# Altium footprint library Sykam-Mech1.PcbLib: 15 footprints (part 2 of 4)
Each footprint in its own frame and in the unit in brackets; x right, y up, seen from the top. Pads: shape width x height; smd on the part's side, far side on the other; paste and mask are expansions set on the pad; w line width, h text height; cw(c..) or ccw(c..) is an arc to the next point about the centre after c.
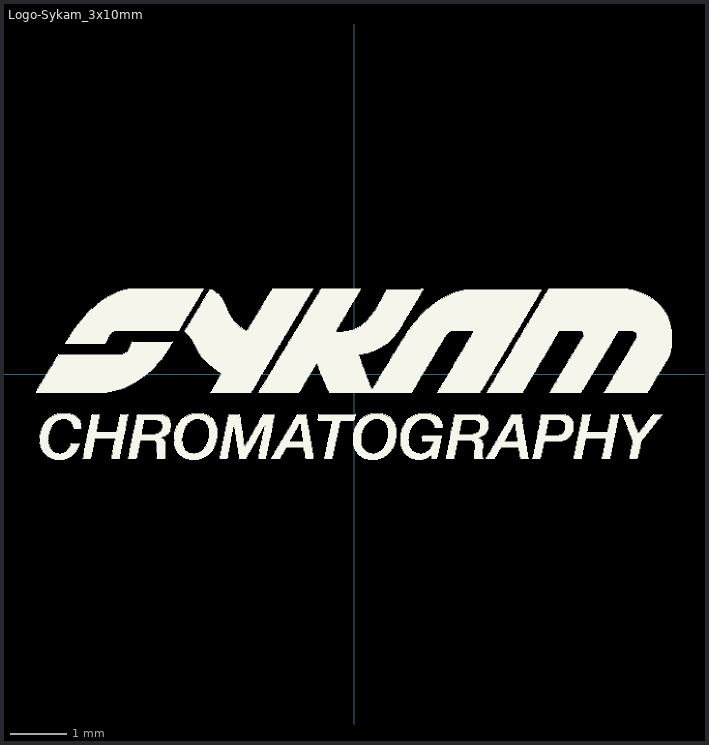
[diagram p1: the footprint, top view; thin cyan lines are the x and y axes]

## Logo-Sykam_3x10mm [mil] "Logo Sykam GmbH in Overlay"
pads (3956):
  round 0.67 on Top Overlay: 1(-220.98,-12.78) 1(-220.98,-12.11) 1(-220.3,-11.44) 1(-220.3,-10.76) 1(-219.63,-10.09) 1(-218.96,-9.42) 1(-218.96,-8.74) 1(-218.29,-48.43) 1(-218.29,-47.76) 1(-218.29,-47.09) 1(-218.29,-46.41) 1(-218.29,-45.74) 1(-218.29,-45.07) 1(-218.29,-44.4) 1(-218.29,-43.72) 1(-218.29,-43.05) 1(-218.29,-42.38) 1(-218.29,-8.07) 1(-218.29,-7.4) 1(-217.61,-51.12) 1(-217.61,-50.45) 1(-217.61,-49.78) 1(-217.61,-49.11) 1(-217.61,-41.71) 1(-217.61,-41.03) 1(-217.61,-40.36) 1(-217.61,-39.69) 1(-217.61,-6.73) 1(-216.94,-52.47) 1(-216.94,-51.8) 1(-216.94,-39.02) 1(-216.94,-38.34) 1(-216.94,-37.67) 1(-216.94,-6.05) 1(-216.94,-5.38) 1(-216.27,-53.81) 1(-216.27,-53.14) 1(-216.27,-37) 1(-216.27,-36.32) 1(-216.27,-35.65) 1(-216.27,-4.71) 1(-216.27,-4.04) 1(-215.59,-54.49) 1(-215.59,-34.98) 1(-215.59,-3.36) 1(-214.92,-55.16) 1(-214.92,-34.31) 1(-214.92,-33.63) 1(-214.92,-2.69) 1(-214.92,-2.02) 1(-214.25,-55.83) 1(-214.25,-32.96) 1(-214.25,-1.35) 1(-214.25,-0.67) 1(-213.58,-56.51) 1(-213.58,-32.29) 1(-213.58,0) 1(-212.9,-57.18) 1(-212.9,-48.43) 1(-212.9,-47.76) 1(-212.9,-47.09) 1(-212.9,-46.41) 1(-212.9,-45.74) 1(-212.9,-45.07) 1(-212.9,-44.4) 1(-212.9,-43.72) 1(-212.9,-43.05) 1(-212.9,-42.38) 1(-212.9,-31.62) 1(-212.9,0.67) 1(-212.9,1.35) 1(-212.23,-50.45) 1(-212.23,-49.78) 1(-212.23,-49.11) 1(-212.23,-41.71) 1(-212.23,-41.03) 1(-212.23,-40.36) 1(-212.23,-39.69) 1(-212.23,-30.94) 1(-212.23,2.02) 1(-212.23,2.69) 1(-211.56,-57.85) 1(-211.56,-51.8) 1(-211.56,-51.12) 1(-211.56,-39.02) 1(-211.56,-38.34) 1(-211.56,-30.27) 1(-211.56,3.36) 1(-210.89,-52.47) 1(-210.89,-37.67) 1(-210.89,-37) 1(-210.89,4.04) 1(-210.89,4.71) 1(-210.21,-58.52) 1(-210.21,-53.14) 1(-210.21,-36.32) 1(-210.21,-35.65) 1(-210.21,-29.6) 1(-210.21,5.38) 1(-209.54,-53.81) 1(-209.54,-34.98) 1(-209.54,-28.93) 1(-209.54,6.05) 1(-209.54,6.73) 1(-208.87,-34.31) 1(-208.87,7.4) 1(-208.87,8.07) 1(-208.2,-59.2) 1(-208.2,-54.49) 1(-208.2,-33.63) 1(-208.2,-28.25) 1(-208.2,8.74) 1(-207.52,-32.96) 1(-207.52,9.42) 1(-207.52,10.09) 1(-206.85,10.76) 1(-206.85,11.44) 1(-206.18,-32.29) 1(-206.18,-27.58) 1(-206.18,12.11) 1(-205.5,-55.16) 1(-205.5,12.78) 1(-205.5,13.45) 1(-204.16,-31.62) 1(-203.49,-55.16) 1(-201.47,-59.2) 1(-201.47,-54.49) 1(-200.8,21.53) 1(-200.12,-53.81) 1(-200.12,22.2) 1(-200.12,22.87) 1(-199.45,-58.52) 1(-199.45,-53.14) 1(-199.45,-31.62) 1(-199.45,23.54) 1(-198.78,-52.47) 1(-198.78,24.22) 1(-198.78,24.89) 1(-198.1,-57.85) 1(-198.1,-51.8) 1(-198.1,-32.29) 1(-198.1,25.56) 1(-197.43,-51.12) 1(-197.43,-50.45) 1(-197.43,-27.58) 1(-197.43,26.23) 1(-197.43,26.91) 1(-196.76,-57.18) 1(-196.76,-49.78) 1(-196.76,-49.11) 1(-196.76,-48.43) 1(-196.76,-32.96) 1(-196.76,27.58) 1(-196.09,-56.51) 1(-196.09,-34.31) 1(-196.09,-33.63) 1(-196.09,28.25) 1(-196.09,28.93) 1(-195.41,-55.83) 1(-195.41,-36.32) 1(-195.41,-35.65) 1(-195.41,-34.98) 1(-195.41,-28.25) 1(-195.41,29.6) 1(-194.74,-55.16) 1(-194.74,-37.67) 1(-194.74,-37) 1(-194.74,30.27) 1(-194.74,30.94) 1(-194.07,-54.49) 1(-194.07,-28.93) 1(-194.07,31.62) 1(-193.4,-53.81) 1(-193.4,-53.14) 1(-193.4,-29.6) 1(-193.4,32.29) 1(-192.72,-52.47) 1(-192.72,-51.8) 1(-192.72,-30.27) 1(-192.72,32.96) 1(-192.72,33.63) 1(-192.05,-51.12) 1(-192.05,-50.45) 1(-192.05,-30.94) 1(-192.05,34.31) 1(-191.38,-49.78) 1(-191.38,-49.11) 1(-191.38,-48.43) 1(-191.38,-31.62) 1(-191.38,34.98) 1(-190.71,-33.63) 1(-190.71,-32.96) 1(-190.71,-32.29) 1(-190.71,35.65) 1(-190.71,36.33) 1(-190.03,-37.67) 1(-190.03,-37) 1(-190.03,-36.32) 1(-190.03,-35.65) 1(-190.03,-34.98) 1(-190.03,-34.31) 1(-190.03,37) 1(-189.36,37.67) 1(-188.69,-58.52) 1(-188.69,38.34) 1(-188.01,-57.85) 1(-188.01,-57.18) 1(-188.01,-56.51) 1(-188.01,-55.83) 1(-188.01,-55.16) 1(-188.01,39.02) 1(-187.34,-54.49) 1(-187.34,-53.81) 1(-187.34,-53.14) 1(-187.34,-52.47) 1(-187.34,-51.8) 1(-187.34,39.69) 1(-186.67,-51.12) 1(-186.67,-50.45) 1(-186.67,-49.78) 1(-186.67,-49.11) 1(-186.67,-48.43) 1(-186.67,40.36) 1(-186,-47.76) 1(-186,-47.09) 1(-186,-46.41) 1(-186,-45.74) 1(-186,-45.07) 1(-186,41.03) 1(-186,41.71) 1(-185.32,-44.4) 1(-185.32,-43.72) 1(-185.32,-43.05) 1(-185.32,-42.38) 1(-185.32,-41.71) 1(-185.32,42.38) 1(-184.65,-41.03) 1(-184.65,-40.36) 1(-184.65,-39.69) 1(-184.65,-39.02) 1(-184.65,43.05) 1(-183.98,-38.34) 1(-183.98,-37.67) 1(-183.98,-37) 1(-183.98,-36.32) 1(-183.98,-35.65) 1(-183.98,43.72) 1(-183.31,-58.52) 1(-183.31,-57.85) 1(-183.31,-34.98) 1(-183.31,-34.31) 1(-183.31,-33.63) 1(-183.31,-32.96) 1(-183.31,-32.29) 1(-183.31,44.4) 1(-182.63,-57.18) 1(-182.63,-56.51) 1(-182.63,-55.83) 1(-182.63,-55.16) 1(-182.63,-54.49) 1(-182.63,-31.62) 1(-182.63,-30.94) 1(-182.63,-30.27) 1(-182.63,-29.6) 1(-182.63,-28.93) 1(-182.63,45.07) 1(-181.96,-53.81) 1(-181.96,-53.14) 1(-181.96,-52.47) 1(-181.96,-51.8) 1(-181.96,-51.12) 1(-181.96,-28.25) 1(-181.29,-50.45) 1(-181.29,-49.78) 1(-181.29,-49.11) 1(-181.29,-48.43) 1(-181.29,-47.76) 1(-181.29,45.74) 1(-180.62,-47.09) 1(-180.62,-46.41) 1(-180.62,-45.74) 1(-180.62,-45.07) 1(-180.62,46.42) 1(-179.94,47.09) 1(-179.27,-39.69) 1(-179.27,-39.02) 1(-179.27,-38.34) 1(-179.27,47.76) 1(-178.6,-37.67) 1(-178.6,-37) 1(-178.6,-36.32) 1(-178.6,-35.65) 1(-178.6,-34.98) 1(-178.6,48.43) 1(-177.92,-34.31) 1(-177.92,-33.63) 1(-177.92,-32.96) 1(-177.92,-32.29) 1(-177.92,-31.62) 1(-177.92,49.11) 1(-177.25,-30.94) 1(-177.25,-30.27) 1(-177.25,-29.6) 1(-177.25,-28.93) 1(-177.25,-28.25) 1(-176.58,49.78) 1(-175.91,50.45) 1(-175.23,51.12) 1(-173.89,51.8) 1(-173.22,21.53) 1(-173.22,52.47) 1(-172.54,22.2) 1(-172.54,22.87) 1(-171.87,-12.78) 1(-171.87,23.54) 1(-171.87,24.22) 1(-171.87,53.14) 1(-171.2,24.89) 1(-171.2,25.56) 1(-171.2,53.81) 1(-170.53,26.23) 1(-170.53,26.91) 1(-169.85,27.58) 1(-169.85,54.49) 1(-169.18,28.25) 1(-168.51,-58.52) 1(-168.51,-57.85) 1(-168.51,-57.18) 1(-168.51,-56.51) 1(-168.51,-12.11) 1(-168.51,28.93) 1(-168.51,55.16) 1(-167.83,-55.83) 1(-167.83,-55.16) 1(-167.83,-54.49) 1(-167.83,-53.81) 1(-167.83,-53.14) 1(-167.16,-52.47) 1(-167.16,-51.8) 1(-167.16,-51.12) 1(-167.16,-50.45) 1(-167.16,-49.78) 1(-167.16,29.6) 1(-167.16,55.83) 1(-166.49,-49.11) 1(-166.49,-48.43) 1(-166.49,-47.76) 1(-166.49,-47.09) 1(-166.49,-46.41) 1(-165.82,-45.74) 1(-165.82,-45.07) 1(-165.82,-11.44) 1(-165.82,56.51) 1(-165.14,-39.69) 1(-164.47,-39.02) 1(-164.47,-38.34) 1(-164.47,-37.67) 1(-164.47,-37) 1(-164.47,57.18) 1(-163.8,-36.32) 1(-163.8,-35.65) 1(-163.8,-34.98) 1(-163.8,-34.31) 1(-163.8,-33.63) 1(-163.8,-10.76) 1(-163.13,-58.52) 1(-163.13,-57.85) 1(-163.13,-57.18) 1(-163.13,-56.51) 1(-163.13,-55.83) 1(-163.13,-32.96) 1(-163.13,-32.29) 1(-163.13,-31.62) 1(-163.13,-30.94) 1(-163.13,-30.27) 1(-162.45,-55.16) 1(-162.45,-54.49) 1(-162.45,-53.81) 1(-162.45,-53.14) 1(-162.45,-52.47) 1(-162.45,-29.6) 1(-162.45,-28.93) 1(-162.45,-28.25) 1(-162.45,57.85) 1(-161.78,-51.8) 1(-161.78,-51.12) 1(-161.78,-50.45) 1(-161.78,-49.78) 1(-161.78,-49.11) 1(-161.78,-10.09) 1(-161.11,-48.43) 1(-161.11,-47.76) 1(-161.11,-47.09) 1(-161.11,-46.41) 1(-161.11,-45.74) 1(-160.43,-45.07) 1(-160.43,-44.4) 1(-160.43,-43.72) 1(-160.43,-43.05) 1(-160.43,-42.38) 1(-160.43,14.13) 1(-160.43,58.52) 1(-159.76,-41.71) 1(-159.76,-41.03) 1(-159.76,-40.36) 1(-159.76,-39.69) 1(-159.76,-9.42) 1(-159.09,-39.02) 1(-159.09,-38.34) 1(-159.09,-37.67) 1(-159.09,-37) 1(-159.09,-36.32) 1(-159.09,14.8) 1(-158.42,-35.65) 1(-158.42,-34.98) 1(-158.42,-34.31) 1(-158.42,-33.63) 1(-158.42,-32.96) 1(-158.42,-8.74) 1(-157.74,-32.29) 1(-157.74,-31.62) 1(-157.74,-30.94) 1(-157.74,-30.27) 1(-157.74,-29.6) 1(-157.74,15.47) 1(-157.07,-58.52) 1(-157.07,-28.93) 1(-157.07,-28.25) 1(-157.07,-8.07) 1(-157.07,16.14) 1(-157.07,59.2) 1(-156.4,-57.85) 1(-156.4,-57.18) 1(-156.4,-56.51) 1(-156.4,-55.83) 1(-156.4,-55.16) 1(-156.4,16.82) 1(-156.4,17.49) 1(-155.73,-54.49) 1(-155.73,-53.81) 1(-155.73,-53.14) 1(-155.73,-52.47) 1(-155.73,-51.8) 1(-155.73,-7.4) 1(-155.73,18.16) 1(-155.73,18.84) 1(-155.05,-51.12) 1(-155.05,-50.45) 1(-155.05,-49.78) 1(-155.05,-49.11) 1(-155.05,-48.43) 1(-155.05,19.51) 1(-155.05,20.18) 1(-155.05,20.85) 1(-154.38,-47.76) 1(-154.38,-47.09) 1(-154.38,-46.41) 1(-154.38,-45.74) 1(-154.38,-45.07) 1(-154.38,-6.73) 1(-154.38,21.53) 1(-154.38,22.2) 1(-153.71,-44.4) 1(-153.71,-43.72) 1(-153.71,-43.05) 1(-153.71,-42.38) 1(-153.71,-41.71) 1(-153.04,-41.03) 1(-153.04,-40.36) 1(-153.04,-39.69) 1(-153.04,-39.02) 1(-153.04,-6.05) 1(-152.36,-38.34) 1(-152.36,-37.67) 1(-152.36,-37) 1(-152.36,-36.32) 1(-152.36,-35.65) 1(-151.69,-58.52) 1(-151.69,-34.98) 1(-151.69,-34.31) 1(-151.69,-33.63) 1(-151.69,-32.96) 1(-151.69,-32.29) 1(-151.69,-5.38) 1(-151.02,-57.85) 1(-151.02,-57.18) 1(-151.02,-56.51) 1(-151.02,-55.83) 1(-151.02,-55.16) 1(-151.02,-31.62) 1(-151.02,-30.94) 1(-151.02,-30.27) 1(-151.02,-29.6) 1(-151.02,-28.93) 1(-151.02,-4.71) 1(-150.34,-54.49) 1(-150.34,-53.81) 1(-150.34,-53.14) 1(-150.34,-52.47) 1(-150.34,-51.8) 1(-150.34,-28.25) 1(-149.67,-51.12) 1(-149.67,-50.45) 1(-149.67,-49.78) 1(-149.67,-49.11) 1(-149.67,-48.43) 1(-149.67,-4.04) 1(-149,-47.76) 1(-149,-47.09) 1(-149,-46.41) 1(-149,-3.36) 1(-147.65,-41.71) 1(-147.65,-41.03) 1(-147.65,-40.36) 1(-147.65,-39.69) 1(-147.65,-39.02) 1(-147.65,-38.34) 1(-147.65,-2.69) 1(-146.98,-37.67) 1(-146.98,-37) 1(-146.98,-36.32) 1(-146.98,-35.65) 1(-146.98,-34.98) 1(-146.98,-2.02) 1(-146.31,-34.31) 1(-146.31,-33.63) 1(-146.31,-32.96) 1(-146.31,-32.29) 1(-145.64,-1.35) 1(-144.96,-0.67) 1(-144.29,0) 1(-143.62,0.67) 1(-142.94,1.35) 1(-141.6,2.02) 1(-140.93,2.69) 1(-140.25,3.36) 1(-139.58,4.04) 1(-138.91,4.71) 1(-138.24,-46.41) 1(-138.24,5.38) 1(-137.56,-47.09) 1(-137.56,-41.71) 1(-137.56,6.05) 1(-137.56,6.73) 1(-136.89,-58.52) 1(-136.89,-57.85) 1(-136.89,-57.18) 1(-136.89,-56.51) 1(-136.89,-55.83) 1(-136.89,-55.16) 1(-136.89,-54.49) 1(-136.89,-53.81) 1(-136.89,-53.14) 1(-136.89,-52.47) 1(-136.89,-51.8) 1(-136.89,-51.12) 1(-136.89,-50.45) 1(-136.89,-49.78) 1(-136.89,-49.11) 1(-136.89,-48.43) 1(-136.89,-47.76) 1(-136.89,7.4) 1(-136.22,-32.29) 1(-136.22,8.07) 1(-135.55,-41.03) 1(-135.55,8.74) 1(-134.87,-40.36) 1(-134.87,9.42) 1(-134.2,-44.4) 1(-134.2,-39.69) 1(-134.2,-32.96) 1(-134.2,10.09) 1(-133.53,-43.72) 1(-133.53,-39.02) 1(-133.53,-38.34) 1(-133.53,-34.31) 1(-133.53,-33.63) 1(-133.53,10.76) 1(-133.53,11.44) 1(-132.85,-45.07) 1(-132.85,-37.67) 1(-132.85,-37) 1(-132.85,-36.32) 1(-132.85,-35.65) 1(-132.85,-34.98) 1(-132.85,-28.25) 1(-132.85,12.11) 1(-132.18,-46.41) 1(-132.18,-45.74) 1(-132.18,12.78) 1(-132.18,13.45) 1(-131.51,-58.52) 1(-131.51,-57.85) 1(-131.51,-57.18) 1(-131.51,-56.51) 1(-131.51,-55.83) 1(-131.51,-55.16) 1(-131.51,-54.49) 1(-131.51,-53.81) 1(-131.51,-53.14) 1(-131.51,-52.47) 1(-131.51,-51.8) 1(-131.51,-51.12) 1(-131.51,-50.45) 1(-131.51,-49.78) 1(-131.51,-49.11) 1(-131.51,-48.43) 1(-131.51,-47.76) 1(-131.51,-47.09) 1(-131.51,-43.05) 1(-131.51,-28.93) 1(-131.51,14.13) 1(-130.84,-42.38) 1(-130.84,14.8) 1(-130.16,-29.6) 1(-130.16,15.47) 1(-130.16,16.14) 1(-129.49,-41.71) 1(-129.49,-41.03) 1(-129.49,-30.27) 1(-129.49,16.82) 1(-129.49,17.49) 1(-128.82,-40.36) 1(-128.82,-31.62) 1(-128.82,-30.94) 1(-128.82,18.16) 1(-128.15,-39.69) 1(-128.15,-39.02) 1(-128.15,-38.34) 1(-128.15,-37.67) 1(-128.15,-33.63) 1(-128.15,-32.96) 1(-128.15,-32.29) 1(-128.15,18.84) 1(-128.15,19.51) 1(-127.47,-37) 1(-127.47,-36.32) 1(-127.47,-35.65) 1(-127.47,-34.98) 1(-127.47,-34.31) 1(-127.47,20.18) 1(-127.47,20.85) 1(-126.8,21.53) 1(-126.13,22.2) 1(-124.78,-49.78) 1(-124.78,-49.11) 1(-124.78,-48.43) 1(-124.78,-47.76) 1(-124.78,-47.09) 1(-124.78,-46.41) 1(-124.78,-45.74) 1(-124.78,-45.07) 1(-124.78,-44.4) 1(-124.78,-43.72) 1(-124.78,-43.05) 1(-124.78,-42.38) 1(-124.78,-41.71) 1(-124.78,-41.03) 1(-124.78,-40.36) 1(-124.11,-51.8) 1(-124.11,-51.12) 1(-124.11,-50.45) 1(-124.11,-39.69) 1(-124.11,-39.02) 1(-124.11,-38.34) 1(-123.44,-53.14) 1(-123.44,-52.47) 1(-123.44,-37.67) 1(-123.44,-37) 1(-123.44,-36.32) 1(-122.76,-54.49) 1(-122.76,-53.81) 1(-122.76,-35.65) 1(-122.09,-55.16) 1(-122.09,-34.98) 1(-122.09,-34.31) 1(-122.09,30.27) 1(-121.42,-55.83) 1(-121.42,-33.63) 1(-121.42,30.94) 1(-121.42,31.62) 1(-120.75,-56.51) 1(-120.75,-32.96) 1(-120.75,-32.29) 1(-120.75,32.29) 1(-120.75,32.96) 1(-120.07,-46.41) 1(-120.07,-45.74) 1(-120.07,-45.07) 1(-120.07,-44.4) 1(-120.07,-31.62) 1(-120.07,33.63) 1(-119.4,-57.18) 1(-119.4,-49.78) 1(-119.4,-49.11) 1(-119.4,-48.43) 1(-119.4,-47.76) 1(-119.4,-47.09) 1(-119.4,-43.72) 1(-119.4,-43.05) 1(-119.4,-42.38) 1(-119.4,-41.71) 1(-119.4,-41.03) 1(-119.4,-30.94) 1(-119.4,34.31) 1(-119.4,34.98) 1(-118.73,-57.85) 1(-118.73,-51.12) 1(-118.73,-50.45) 1(-118.73,-40.36) 1(-118.73,-39.69) 1(-118.73,-39.02) 1(-118.73,35.65) 1(-118.73,36.33) 1(-118.06,-52.47) 1(-118.06,-51.8) 1(-118.06,-38.34) 1(-118.06,-37.67) 1(-118.06,-30.27) 1(-118.06,37) 1(-117.38,-58.52) 1(-117.38,-53.14) 1(-117.38,-37) 1(-117.38,-36.32) 1(-117.38,-29.6) 1(-117.38,29.6) 1(-117.38,30.27) 1(-117.38,37.67) 1(-117.38,38.34) 1(-116.71,-35.65) 1(-116.71,28.93) 1(-116.71,30.94) 1(-116.71,31.62) 1(-116.71,39.02) 1(-116.71,39.69) 1(-116.04,-53.81) 1(-116.04,-34.98) 1(-116.04,-34.31) 1(-116.04,-28.93) 1(-116.04,28.25) 1(-116.04,32.29) 1(-116.04,40.36) 1(-115.36,-54.49) 1(-115.36,27.58) 1(-115.36,32.96) 1(-115.36,33.63) 1(-115.36,41.03) 1(-115.36,41.71) 1(-114.69,-59.2) 1(-114.69,-33.63) 1(-114.69,-28.25) 1(-114.69,26.91) 1(-114.69,34.31) 1(-114.69,34.98) 1(-114.69,42.38) 1(-114.69,43.05) 1(-114.02,-32.96) 1(-114.02,25.56) 1(-114.02,26.23) 1(-114.02,35.65) 1(-114.02,43.72) 1(-113.35,24.89) 1(-113.35,36.33) 1(-113.35,37) 1(-113.35,44.4) 1(-113.35,45.07) 1(-112.67,-32.29) 1(-112.67,-27.58) 1(-112.67,24.22) 1(-112.67,37.67) 1(-112.67,38.34) 1(-112.67,45.74) 1(-112.67,46.42) 1(-112,-55.16) 1(-112,22.87) 1(-112,23.54) 1(-112,39.02) 1(-112,47.09) 1(-111.33,-31.62) 1(-111.33,21.53) 1(-111.33,22.2) 1(-111.33,39.69) 1(-111.33,40.36) 1(-111.33,47.76) 1(-111.33,48.43) 1(-110.66,-55.16) 1(-110.66,20.18) 1(-110.66,20.85) 1(-110.66,41.03) 1(-110.66,41.71) 1(-110.66,49.11) 1(-110.66,49.78) 1(-109.98,18.84) 1(-109.98,19.51) 1(-109.98,42.38) 1(-109.98,50.45) 1(-109.31,17.49) 1(-109.31,18.16) 1(-109.31,43.05) 1(-109.31,43.72) 1(-109.31,51.12) 1(-109.31,51.8) 1(-108.64,16.14) 1(-108.64,16.82) 1(-108.64,44.4) 1(-108.64,45.07) 1(-108.64,52.47) 1(-108.64,53.14) 1(-107.97,-59.2) 1(-107.97,-54.49) 1(-107.97,14.8) 1(-107.97,15.47) 1(-107.97,45.74) 1(-107.97,53.81) 1(-107.29,14.13) 1(-107.29,46.42) 1(-107.29,47.09) 1(-107.29,54.49) 1(-107.29,55.16) 1(-106.62,-53.81) 1(-106.62,-31.62) 1(-106.62,12.78) 1(-106.62,13.45) 1(-106.62,47.76) 1(-106.62,48.43) 1(-106.62,55.83) 1(-106.62,56.51) 1(-105.95,-58.52) 1(-105.95,12.11) 1(-105.95,49.11) 1(-105.95,57.18) 1(-105.27,-53.14) 1(-105.27,11.44) 1(-105.27,49.78) 1(-105.27,50.45) 1(-105.27,57.85) 1(-105.27,58.52) 1(-104.6,-57.85) 1(-104.6,-52.47) 1(-104.6,-32.29) 1(-104.6,-27.58) 1(-104.6,10.76) 1(-104.6,51.12) 1(-104.6,51.8) 1(-104.6,59.2) 1(-103.93,-51.8) 1(-103.93,-51.12) 1(-103.93,10.09) 1(-103.93,52.47) 1(-103.26,-57.18) 1(-103.26,-50.45) 1(-103.26,-32.96) 1(-103.26,9.42) 1(-103.26,53.14) 1(-103.26,53.81) 1(-102.58,-49.78) 1(-102.58,-49.11) 1(-102.58,-34.31) 1(-102.58,-33.63) 1(-102.58,-28.25) 1(-102.58,8.74) 1(-102.58,54.49) 1(-102.58,55.16) 1(-101.91,-56.51) 1(-101.91,-48.43) 1(-101.91,-47.76) 1(-101.91,-34.98) 1(-101.91,8.07) 1(-101.91,55.83) 1(-101.24,-55.83) 1(-101.24,-47.09) 1(-101.24,-46.41) 1(-101.24,-45.74) 1(-101.24,-45.07) 1(-101.24,-37) 1(-101.24,-36.32) 1(-101.24,-35.65) 1(-101.24,-28.93) 1(-101.24,7.4) 1(-101.24,56.51) 1(-101.24,57.18) 1(-100.57,-55.16) 1(-100.57,-44.4) 1(-100.57,-43.72) 1(-100.57,-43.05) 1(-100.57,-42.38) 1(-100.57,-41.71) 1(-100.57,-41.03) 1(-100.57,-40.36) 1(-100.57,-39.69) 1(-100.57,-39.02) 1(-100.57,-38.34) 1(-100.57,-37.67) 1(-100.57,-29.6) 1(-100.57,6.73) 1(-100.57,57.85) 1(-100.57,58.52) 1(-99.89,-54.49) 1(-99.89,-12.78) 1(-99.89,6.05) 1(-99.22,-53.81) 1(-99.22,-30.27) 1(-99.22,-12.11) 1(-98.55,-53.14) 1(-98.55,-52.47) 1(-98.55,-30.94) 1(-98.55,-11.44) 1(-98.55,-10.76) 1(-98.55,5.38) 1(-98.55,58.52) 1(-97.88,-51.8) 1(-97.88,-51.12) 1(-97.88,-32.29) 1(-97.88,-31.62) 1(-97.88,-10.09) 1(-97.88,-9.42) 1(-97.88,4.71) 1(-97.2,-50.45) 1(-97.2,-49.78) 1(-97.2,-32.96) 1(-97.2,-8.74) 1(-97.2,-8.07) 1(-97.2,4.04) 1(-97.2,57.85) 1(-96.53,-49.11) 1(-96.53,-48.43) 1(-96.53,-47.76) 1(-96.53,-34.98) 1(-96.53,-34.31) 1(-96.53,-33.63) 1(-96.53,-7.4) 1(-96.53,57.18) 1(-95.86,-47.09) 1(-95.86,-46.41) 1(-95.86,-45.74) 1(-95.86,-45.07) 1(-95.86,-37) 1(-95.86,-36.32) 1(-95.86,-35.65) 1(-95.86,-6.73) 1(-95.86,-6.05) 1(-95.86,3.36) 1(-95.86,56.51) 1(-95.18,-44.4) 1(-95.18,-43.72) 1(-95.18,-43.05) 1(-95.18,-42.38) 1(-95.18,-41.71) 1(-95.18,-41.03) 1(-95.18,-40.36) 1(-95.18,-39.69) 1(-95.18,-39.02) 1(-95.18,-38.34) 1(-95.18,-37.67) 1(-95.18,-5.38) 1(-95.18,-4.71) 1(-95.18,2.69) 1(-94.51,-4.04) 1(-94.51,2.02) 1(-94.51,55.83) 1(-93.84,-3.36) 1(-93.84,-2.69) 1(-93.84,54.49) 1(-93.84,55.16) 1(-93.17,-58.52) 1(-93.17,-57.85) 1(-93.17,-57.18) 1(-93.17,-2.02) 1(-93.17,-1.35) 1(-93.17,1.35) 1(-93.17,53.81) 1(-92.49,-56.51) 1(-92.49,-55.83) 1(-92.49,-55.16) 1(-92.49,-54.49) 1(-92.49,-53.81) 1(-92.49,-0.67) 1(-92.49,0.67) 1(-92.49,53.14) 1(-91.82,-53.14) 1(-91.82,-52.47) 1(-91.82,-51.8) 1(-91.82,-51.12) 1(-91.82,-50.45) 1(-91.82,0) 1(-91.82,51.8) 1(-91.82,52.47) 1(-91.15,-49.78) 1(-91.15,-49.11) 1(-91.15,-48.43) 1(-91.15,-47.76) 1(-91.15,-47.09) 1(-91.15,50.45) 1(-91.15,51.12) 1(-90.48,-46.41) 1(-90.48,-45.74) 1(-90.48,-45.07) 1(-90.48,-44.4) 1(-90.48,-43.72) 1(-90.48,49.11) 1(-90.48,49.78) 1(-89.8,-43.05) 1(-89.8,-42.38) 1(-89.8,-41.71) 1(-89.8,-41.03) 1(-89.8,-40.36) 1(-89.8,47.76) 1(-89.8,48.43) 1(-89.13,-39.69) 1(-89.13,-39.02) 1(-89.13,-38.34) 1(-89.13,-37.67) 1(-89.13,-37) 1(-89.13,46.42) 1(-89.13,47.09) 1(-88.46,-58.52) 1(-88.46,-36.32) 1(-88.46,-35.65) 1(-88.46,-34.98) 1(-88.46,-34.31) 1(-88.46,-33.63) 1(-88.46,44.4) 1(-88.46,45.07) 1(-88.46,45.74) 1(-87.79,-57.85) 1(-87.79,-57.18) 1(-87.79,-56.51) 1(-87.79,-55.83) 1(-87.79,-55.16) 1(-87.79,-54.49) 1(-87.79,-32.96) 1(-87.79,-32.29) 1(-87.79,-31.62) 1(-87.79,-30.94) 1(-87.79,-30.27) 1(-87.79,43.05) 1(-87.79,43.72) 1(-87.11,-53.81) 1(-87.11,-53.14) 1(-87.11,-52.47) 1(-87.11,-51.8) 1(-87.11,-51.12) 1(-87.11,-29.6) 1(-87.11,-28.93) 1(-87.11,-28.25) 1(-87.11,41.71) 1(-87.11,42.38) 1(-86.44,-50.45) 1(-86.44,-49.78) 1(-86.44,-49.11) 1(-86.44,-48.43) 1(-86.44,-47.76) 1(-86.44,41.03) 1(-85.77,-47.09) 1(-85.77,-46.41) 1(-85.77,-45.74) 1(-85.77,-45.07) 1(-85.77,-44.4) 1(-85.77,-43.72) 1(-85.77,39.69) 1(-85.77,40.36) 1(-85.09,-43.05) 1(-85.09,-42.38) 1(-85.09,-41.71) 1(-85.09,-41.03) 1(-85.09,-40.36) 1(-85.09,39.02) 1(-84.42,-39.69) 1(-84.42,-39.02) 1(-84.42,-38.34) 1(-84.42,-37.67) 1(-84.42,-37) 1(-84.42,37.67) 1(-84.42,38.34) 1(-83.75,-36.32) 1(-83.75,-35.65) 1(-83.75,-34.98) 1(-83.75,37) 1(-83.08,-37.67) 1(-83.08,-37) 1(-83.08,-36.32) 1(-83.08,-35.65) 1(-83.08,-34.98) 1(-83.08,36.33) 1(-82.4,-41.71) 1(-82.4,-41.03) 1(-82.4,-40.36) 1(-82.4,-39.69) 1(-82.4,-39.02) 1(-82.4,-38.34) 1(-82.4,35.65) 1(-81.73,-46.41) 1(-81.73,-45.74) 1(-81.73,-45.07) 1(-81.73,-44.4) 1(-81.73,-43.72) 1(-81.73,-43.05) 1(-81.73,-42.38) 1(-81.73,34.98) 1(-81.06,-50.45) 1(-81.06,-49.78) 1(-81.06,-49.11) 1(-81.06,-48.43) 1(-81.06,-47.76) 1(-81.06,-47.09) 1(-81.06,34.31) 1(-80.39,-55.16) 1(-80.39,-54.49) 1(-80.39,-53.81) 1(-80.39,-53.14) 1(-80.39,-52.47) 1(-80.39,-51.8) 1(-80.39,-51.12) 1(-80.39,33.63) 1(-79.71,-58.52) 1(-79.71,-57.85) 1(-79.71,-57.18) 1(-79.71,-56.51) 1(-79.71,-55.83) 1(-79.71,-29.6) 1(-79.71,-28.93) 1(-79.71,-28.25) 1(-79.71,32.96) 1(-79.04,-34.31) 1(-79.04,-33.63) 1(-79.04,-32.96) 1(-79.04,-32.29) 1(-79.04,-31.62) 1(-79.04,-30.94) 1(-79.04,-30.27) 1(-78.37,-39.02) 1(-78.37,-38.34) 1(-78.37,-37.67) 1(-78.37,-37) 1(-78.37,-36.32) 1(-78.37,-35.65) 1(-78.37,-34.98) 1(-78.37,32.29) 1(-77.69,-43.72) 1(-77.69,-43.05) 1(-77.69,-42.38) 1(-77.69,-41.71) 1(-77.69,-41.03) 1(-77.69,-40.36) 1(-77.69,-39.69) 1(-77.69,31.62) 1(-77.02,-48.43) 1(-77.02,-47.76) 1(-77.02,-47.09) 1(-77.02,-46.41) 1(-77.02,-45.74) 1(-77.02,-45.07) 1(-77.02,-44.4) 1(-76.35,-51.12) 1(-76.35,-50.45) 1(-76.35,-49.78) 1(-76.35,-49.11) 1(-76.35,30.94) 1(-75.68,-51.12) 1(-75.68,-50.45) 1(-75.68,30.27) 1(-75,-58.52) 1(-75,-57.85) 1(-75,-49.78) 1(-75,-49.11) 1(-74.33,-57.18) 1(-74.33,-56.51) 1(-74.33,-48.43) 1(-74.33,-47.76) 1(-74.33,30.27) 1(-73.66,-55.83) 1(-73.66,-55.16) 1(-73.66,-47.09) 1(-73.66,30.94) 1(-72.99,-54.49) 1(-72.99,-46.41) 1(-72.99,-45.74) 1(-72.99,31.62) 1(-72.99,32.29) 1(-72.31,-53.81) 1(-72.31,-53.14) 1(-72.31,-45.07) 1(-72.31,-44.4) 1(-72.31,32.96) 1(-72.31,33.63) 1(-71.64,-52.47) 1(-71.64,-51.8) 1(-71.64,-43.72) 1(-71.64,-43.05) 1(-71.64,-12.78) 1(-71.64,-12.11) 1(-71.64,34.31) 1(-70.97,-51.12) 1(-70.97,-50.45) 1(-70.97,-42.38) 1(-70.97,-11.44) 1(-70.97,34.98) 1(-70.97,35.65) 1(-70.3,-49.78) 1(-70.3,-49.11) 1(-70.3,-41.71) 1(-70.3,-41.03) 1(-70.3,-10.76) 1(-70.3,-10.09) 1(-70.3,36.33) 1(-70.3,37) 1(-69.62,-48.43) 1(-69.62,-40.36) 1(-69.62,-39.69) 1(-69.62,-9.42) 1(-69.62,-8.74) 1(-69.62,37.67) 1(-68.95,-47.76) 1(-68.95,-47.09) 1(-68.95,-39.02) 1(-68.95,-38.34) 1(-68.95,-8.07) 1(-68.95,38.34) 1(-68.95,39.02) 1(-68.28,-46.41) 1(-68.28,-45.74) 1(-68.28,-37.67) 1(-68.28,-37) 1(-68.28,-7.4) 1(-68.28,-6.73) 1(-68.28,39.69) 1(-68.28,40.36) 1(-67.6,-45.07) 1(-67.6,-44.4) 1(-67.6,-36.32) 1(-67.6,-6.05) 1(-67.6,-5.38) 1(-67.6,41.03) 1(-66.93,-43.72) 1(-66.93,-43.05) 1(-66.93,-35.65) 1(-66.93,-34.98) 1(-66.93,-4.71) 1(-66.93,41.71) 1(-66.93,42.38) 1(-66.26,-58.52) 1(-66.26,-57.85) 1(-66.26,-57.18) 1(-66.26,-56.51) 1(-66.26,-55.83) 1(-66.26,-42.38) 1(-66.26,-34.31) 1(-66.26,-33.63) 1(-66.26,-12.78) 1(-66.26,-4.04) 1(-66.26,-3.36) 1(-66.26,43.05) 1(-66.26,43.72) 1(-65.59,-55.16) 1(-65.59,-54.49) 1(-65.59,-53.81) 1(-65.59,-53.14) 1(-65.59,-52.47) 1(-65.59,-41.71) 1(-65.59,-41.03) 1(-65.59,-32.96) 1(-65.59,-32.29) 1(-65.59,-12.11) 1(-65.59,-11.44) 1(-65.59,-2.69) 1(-65.59,-2.02) 1(-65.59,44.4) 1(-64.91,-51.8) 1(-64.91,-51.12) 1(-64.91,-50.45) 1(-64.91,-49.78) 1(-64.91,-40.36) 1(-64.91,-39.69) 1(-64.91,-31.62) 1(-64.91,-30.94) 1(-64.91,-10.76) 1(-64.91,-10.09) 1(-64.91,-1.35) 1(-64.91,-0.67) 1(-64.91,45.07) 1(-64.91,45.74) 1(-64.24,-49.11) 1(-64.24,-48.43) 1(-64.24,-47.76) 1(-64.24,-47.09) 1(-64.24,-46.41) 1(-64.24,-39.02) 1(-64.24,-38.34) 1(-64.24,-30.27) 1(-64.24,-9.42) 1(-64.24,0) 1(-64.24,46.42) 1(-64.24,47.09) 1(-63.57,-45.74) 1(-63.57,-45.07) 1(-63.57,-44.4) 1(-63.57,-43.72) 1(-63.57,-43.05) 1(-63.57,-37.67) 1(-63.57,-37) 1(-63.57,-29.6) 1(-63.57,-28.93) 1(-63.57,-8.74) 1(-63.57,-8.07) 1(-63.57,0.67) 1(-63.57,1.35) 1(-63.57,47.76) 1(-62.9,-42.38) 1(-62.9,-41.71) 1(-62.9,-41.03) 1(-62.9,-40.36) 1(-62.9,-36.32) 1(-62.9,-28.25) 1(-62.9,-7.4) 1(-62.9,2.02) 1(-62.9,2.69) 1(-62.9,48.43) 1(-62.9,49.11) 1(-62.22,-39.69) 1(-62.22,-39.02) 1(-62.22,-38.34) 1(-62.22,-37.67) 1(-62.22,-37) 1(-62.22,-35.65) 1(-62.22,-34.98) 1(-62.22,-6.73) 1(-62.22,-6.05) 1(-62.22,3.36) 1(-62.22,49.78) 1(-62.22,50.45) 1(-61.55,-58.52) 1(-61.55,-57.85) 1(-61.55,-57.18) 1(-61.55,-36.32) 1(-61.55,-35.65) 1(-61.55,-34.98) 1(-61.55,-5.38) 1(-61.55,-4.71) 1(-61.55,4.04) 1(-61.55,4.71) 1(-61.55,51.12) 1(-60.88,-56.51) 1(-60.88,-55.83) 1(-60.88,-55.16) 1(-60.88,-54.49) 1(-60.88,-53.81) 1(-60.88,-4.04) 1(-60.88,5.38) 1(-60.88,6.05) 1(-60.88,51.8) 1(-60.88,52.47) 1(-60.21,-53.14) 1(-60.21,-52.47) 1(-60.21,-51.8) 1(-60.21,-51.12) 1(-60.21,-50.45) 1(-60.21,-3.36) 1(-60.21,-2.69) 1(-60.21,6.73) 1(-60.21,53.14) 1(-60.21,53.81) 1(-59.53,-49.78) 1(-59.53,-49.11) 1(-59.53,-48.43) 1(-59.53,-47.76) 1(-59.53,-47.09) 1(-59.53,-2.02) 1(-59.53,-1.35) 1(-59.53,7.4) 1(-59.53,8.07) 1(-59.53,54.49) 1(-58.86,-46.41) 1(-58.86,-45.74) 1(-58.86,-45.07) 1(-58.86,-44.4) 1(-58.86,-0.67) 1(-58.86,8.74) 1(-58.86,9.42) 1(-58.86,55.16) 1(-58.86,55.83) 1(-58.19,-43.72) 1(-58.19,-43.05) 1(-58.19,-42.38) 1(-58.19,-41.71) 1(-58.19,-41.03) 1(-58.19,0) 1(-58.19,0.67) 1(-58.19,10.09) 1(-58.19,56.51) 1(-58.19,57.18) 1(-57.51,-58.52) 1(-57.51,-40.36) 1(-57.51,-39.69) 1(-57.51,-39.02) 1(-57.51,-38.34) 1(-57.51,-37.67) 1(-57.51,1.35) 1(-57.51,2.02) 1(-57.51,10.76) 1(-57.51,11.44) 1(-57.51,57.85) 1(-56.84,-57.85) 1(-56.84,-57.18) 1(-56.84,-37) 1(-56.84,-36.32) 1(-56.84,-35.65) 1(-56.84,-34.98) 1(-56.84,-34.31) 1(-56.84,2.69) 1(-56.84,12.11) 1(-56.84,12.78) 1(-56.84,58.52) 1(-56.84,59.2) 1(-56.17,-56.51) 1(-56.17,-33.63) 1(-56.17,-32.96) 1(-56.17,-32.29) 1(-56.17,-31.62) 1(-56.17,-30.94) 1(-56.17,3.36) 1(-56.17,4.04) 1(-56.17,13.45) 1(-55.5,-55.83) 1(-55.5,-55.16) 1(-55.5,-30.27) 1(-55.5,-29.6) 1(-55.5,-28.93) 1(-55.5,-28.25) 1(-55.5,4.71) 1(-55.5,5.38) 1(-55.5,14.13) 1(-55.5,14.8) 1(-54.82,-54.49) 1(-54.82,-53.81) 1(-54.82,6.05) 1(-54.82,15.47) 1(-54.82,16.14) 1(-54.15,-53.14) 1(-54.15,6.73) 1(-54.15,7.4) 1(-54.15,16.82) 1(-53.48,-52.47) 1(-53.48,-51.8) 1(-53.48,8.07) 1(-53.48,8.74) 1(-53.48,17.49) 1(-53.48,18.16) 1(-52.81,-51.12) 1(-52.81,-50.45) 1(-52.81,9.42) 1(-52.81,18.84) 1(-52.81,19.51) 1(-52.13,-49.78) 1(-52.13,10.09) 1(-52.13,10.76) 1(-52.13,20.18) 1(-51.46,-58.52) 1(-51.46,-57.85) 1(-51.46,-49.11) 1(-51.46,-48.43) 1(-51.46,11.44) 1(-51.46,12.11) 1(-51.46,20.85) 1(-51.46,21.53) 1(-50.79,-57.18) 1(-50.79,-56.51) 1(-50.79,-47.76) 1(-50.79,-47.09) 1(-50.79,12.78) 1(-50.79,22.2) 1(-50.79,22.87) 1(-50.11,-55.83) 1(-50.11,-46.41) 1(-50.11,13.45) 1(-50.11,14.13) 1(-50.11,23.54) 1(-49.44,-55.16) 1(-49.44,-54.49) 1(-49.44,-45.74) 1(-49.44,-45.07) 1(-49.44,14.8) 1(-49.44,15.47) 1(-49.44,24.22) 1(-49.44,24.89) 1(-48.77,-53.81) 1(-48.77,-53.14) 1(-48.77,-44.4) 1(-48.77,-43.72) 1(-48.77,16.14) 1(-48.77,25.56) 1(-48.77,26.23) 1(-48.1,-52.47) 1(-48.1,-51.8) 1(-48.1,-43.05) 1(-48.1,-42.38) 1(-48.1,16.82) 1(-48.1,17.49) 1(-48.1,26.91) 1(-47.42,-51.12) 1(-47.42,-41.71) 1(-47.42,18.16) 1(-47.42,18.84) 1(-47.42,27.58) 1(-47.42,28.25) 1(-46.75,-41.03) 1(-46.75,-40.36) 1(-46.75,19.51) 1(-46.75,28.93) 1(-46.75,29.6) 1(-46.08,-39.69) 1(-46.08,-39.02) 1(-46.08,20.18) 1(-46.08,20.85) 1(-46.08,30.27) 1(-45.41,-38.34) 1(-45.41,21.53) 1(-45.41,22.2) 1(-45.41,30.94) 1(-45.41,31.62) 1(-44.73,-46.41) 1(-44.73,-45.74) 1(-44.73,-37.67) 1(-44.73,-37) 1(-44.73,22.87) 1(-44.73,32.29) 1(-44.73,32.96) 1(-44.06,-45.07) 1(-44.06,-36.32) 1(-44.06,-35.65) 1(-44.06,23.54) 1(-44.06,24.22) 1(-44.06,33.63) 1(-43.39,-44.4) 1(-43.39,-43.72) 1(-43.39,-34.98) 1(-43.39,24.89) 1(-43.39,25.56) 1(-43.39,34.31) 1(-43.39,34.98) 1(-42.72,-43.05) 1(-42.72,-42.38) 1(-42.72,-34.31) 1(-42.72,-33.63) 1(-42.72,26.23) 1(-42.72,35.65) 1(-42.72,36.33) 1(-42.04,-41.71) 1(-42.04,-41.03) 1(-42.04,-32.96) 1(-42.04,-32.29) 1(-42.04,26.91) 1(-42.04,27.58) 1(-42.04,37) 1(-41.37,-40.36) 1(-41.37,-39.69) 1(-41.37,-31.62) 1(-41.37,28.25) 1(-41.37,28.93) 1(-41.37,37.67) 1(-41.37,38.34) 1(-40.7,-39.02) 1(-40.7,-30.94) 1(-40.7,-30.27) 1(-40.7,29.6) 1(-40.7,39.02) 1(-40.7,39.69) 1(-40.02,-38.34) 1(-40.02,-37.67) 1(-40.02,-29.6) 1(-40.02,-28.93) 1(-40.02,30.27) 1(-40.02,30.94) 1(-40.02,40.36) 1(-39.35,-37) 1(-39.35,-36.32) 1(-39.35,-28.25) 1(-39.35,31.62) 1(-39.35,41.03) 1(-39.35,41.71) 1(-38.68,-35.65) 1(-38.68,-34.98) 1(-38.68,-12.78) 1(-38.68,32.29) 1(-38.68,32.96) 1(-38.68,42.38) 1(-38.68,43.05) 1(-38.01,-34.31) 1(-38.01,-33.63) 1(-38.01,-12.11) 1(-38.01,33.63) 1(-38.01,34.31) 1(-38.01,43.72) 1(-37.33,-34.31) 1(-37.33,-33.63) 1(-37.33,-11.44) 1(-37.33,-10.76) 1(-37.33,34.98) 1(-37.33,44.4) 1(-37.33,45.07) 1(-36.66,-39.02) 1(-36.66,-38.34) 1(-36.66,-37.67) 1(-36.66,-37) 1(-36.66,-36.32) 1(-36.66,-35.65) 1(-36.66,-34.98) 1(-36.66,-10.09) 1(-36.66,-9.42) 1(-36.66,35.65) 1(-36.66,36.33) 1(-36.66,45.74) 1(-36.66,46.42) 1(-35.99,-43.72) 1(-35.99,-43.05) 1(-35.99,-42.38) 1(-35.99,-41.71) 1(-35.99,-41.03) 1(-35.99,-40.36) 1(-35.99,-39.69) 1(-35.99,-8.74) 1(-35.99,37) 1(-35.99,37.67) 1(-35.99,47.09) 1(-35.32,-46.41) 1(-35.32,-45.74) 1(-35.32,-45.07) 1(-35.32,-44.4) 1(-35.32,-8.07) 1(-35.32,-7.4) 1(-35.32,38.34) 1(-35.32,47.76) 1(-35.32,48.43) 1(-34.64,-53.14) 1(-34.64,-52.47) 1(-34.64,-51.8) 1(-34.64,-51.12) 1(-34.64,-6.73) 1(-34.64,-6.05) 1(-34.64,39.02) 1(-34.64,39.69) 1(-34.64,49.11) 1(-34.64,49.78) 1(-33.97,-57.85) 1(-33.97,-57.18) 1(-33.97,-56.51) 1(-33.97,-55.83) 1(-33.97,-55.16) 1(-33.97,-54.49) 1(-33.97,-53.81) 1(-33.97,-5.38) 1(-33.97,40.36) 1(-33.97,41.03) 1(-33.97,50.45) 1(-33.3,-58.52) 1(-33.3,-30.94) 1(-33.3,-30.27) 1(-33.3,-29.6) 1(-33.3,-28.93) 1(-33.3,-28.25) 1(-33.3,-4.71) 1(-33.3,-4.04) 1(-33.3,41.71) 1(-33.3,51.12) 1(-33.3,51.8) 1(-32.63,-34.98) 1(-32.63,-34.31) 1(-32.63,-33.63) 1(-32.63,-32.96) 1(-32.63,-32.29) 1(-32.63,-31.62) 1(-32.63,-3.36) 1(-32.63,-2.69) 1(-32.63,42.38) 1(-32.63,43.05) 1(-32.63,52.47) 1(-32.63,53.14) 1(-31.95,-38.34) 1(-31.95,-37.67) 1(-31.95,-37) 1(-31.95,-36.32) 1(-31.95,-35.65) 1(-31.95,-2.02) 1(-31.95,43.72) 1(-31.95,44.4) 1(-31.95,53.81) 1(-31.28,-42.38) 1(-31.28,-41.71) 1(-31.28,-41.03) 1(-31.28,-40.36) 1(-31.28,-39.69) 1(-31.28,-39.02) 1(-31.28,-1.35) 1(-31.28,-0.67) 1(-31.28,45.07) 1(-31.28,54.49) 1(-31.28,55.16) 1(-30.61,-46.41) 1(-30.61,-45.74) 1(-30.61,-45.07) 1(-30.61,-44.4) 1(-30.61,-43.72) 1(-30.61,-43.05) 1(-30.61,0) 1(-30.61,0.67) 1(-30.61,45.74) 1(-30.61,46.42) 1(-30.61,55.83) 1(-30.61,56.51) 1(-29.93,-50.45) 1(-29.93,-49.78) 1(-29.93,-49.11) 1(-29.93,-48.43) 1(-29.93,-47.76) 1(-29.93,-47.09) 1(-29.93,1.35) 1(-29.93,47.09) 1(-29.93,47.76) 1(-29.93,57.18) 1(-29.26,-54.49) 1(-29.26,-53.81) 1(-29.26,-53.14) 1(-29.26,-52.47) 1(-29.26,-51.8) 1(-29.26,-51.12) 1(-29.26,2.02) 1(-29.26,2.69) 1(-29.26,48.43) 1(-29.26,57.85) 1(-29.26,58.52) 1(-28.59,-58.52) 1(-28.59,-57.85) 1(-28.59,-57.18) 1(-28.59,-56.51) 1(-28.59,-55.83) 1(-28.59,-55.16) 1(-28.59,3.36) 1(-28.59,4.04) 1(-28.59,49.11) 1(-28.59,49.78) 1(-28.59,59.2) 1(-27.92,4.71) 1(-27.92,50.45) 1(-27.92,51.12) 1(-27.24,5.38) 1(-27.24,6.05) 1(-27.24,51.8) 1(-26.57,6.73) 1(-26.57,7.4) 1(-26.57,52.47) 1(-26.57,53.14) 1(-25.9,7.4) 1(-25.9,53.81) 1(-25.9,54.49) 1(-25.23,-31.62) 1(-25.23,6.05) 1(-25.23,6.73) 1(-25.23,55.16) 1(-24.55,-32.29) 1(-24.55,-30.94) 1(-24.55,-30.27) 1(-24.55,-29.6) 1(-24.55,-28.93) 1(-24.55,-28.25) 1(-24.55,4.04) 1(-24.55,4.71) 1(-24.55,5.38) 1(-24.55,55.83) 1(-24.55,56.51) 1(-23.88,2.69) 1(-23.88,3.36) 1(-23.88,57.18) 1(-23.88,57.85) 1(-23.21,0.67) 1(-23.21,1.35) 1(-23.21,2.02) 1(-23.21,58.52) 1(-22.53,-0.67) 1(-22.53,0) 1(-22.53,59.2) 1(-21.86,-2.02) 1(-21.86,-1.35) 1(-21.19,-4.04) 1(-21.19,-3.36) 1(-21.19,-2.69) 1(-20.52,-58.52) 1(-20.52,-57.85) 1(-20.52,-5.38) 1(-20.52,-4.71) 1(-19.84,-57.18) 1(-19.84,-56.51) 1(-19.84,-55.83) 1(-19.84,-55.16) 1(-19.84,-54.49) 1(-19.84,-6.73) 1(-19.84,-6.05) 1(-19.17,-53.81) 1(-19.17,-53.14) 1(-19.17,-52.47) 1(-19.17,-51.8) 1(-19.17,-51.12) 1(-19.17,-8.74) 1(-19.17,-8.07) 1(-19.17,-7.4) 1(-18.5,-50.45) 1(-18.5,-49.78) 1(-18.5,-49.11) 1(-18.5,-48.43) 1(-18.5,-47.76) 1(-18.5,-10.09) 1(-18.5,-9.42) 1(-17.83,-47.09) 1(-17.83,-46.41) 1(-17.83,-45.74) 1(-17.83,-45.07) 1(-17.83,-44.4) 1(-17.83,-11.44) 1(-17.83,-10.76) 1(-17.15,-43.72) 1(-17.15,-43.05) 1(-17.15,-42.38) 1(-17.15,-41.71) 1(-17.15,-12.78) 1(-17.15,-12.11) 1(-16.48,-41.03) 1(-16.48,-40.36) 1(-16.48,-39.69) 1(-16.48,-39.02) 1(-16.48,-38.34) 1(-15.81,-37.67) 1(-15.81,-37) 1(-15.81,-36.32) 1(-15.81,-35.65) 1(-15.81,-34.98) 1(-15.14,-58.52) 1(-15.14,-57.85) 1(-15.14,-57.18) 1(-15.14,-34.31) 1(-15.14,-33.63) 1(-15.14,-32.96) 1(-14.46,-56.51) 1(-14.46,-55.83) 1(-14.46,-55.16) 1(-14.46,-54.49) 1(-14.46,-53.81) 1(-13.79,-53.14) 1(-13.79,-52.47) 1(-13.79,-51.8) 1(-13.79,-51.12) 1(-13.79,-50.45) 1(-13.12,-49.78) 1(-13.12,-49.11) 1(-13.12,-48.43) 1(-13.12,-47.76) 1(-13.12,-47.09) 1(-12.44,-46.41) 1(-12.44,-45.74) 1(-12.44,-45.07) 1(-12.44,-44.4) 1(-12.44,29.6) 1(-12.44,30.27) 1(-12.44,30.94) 1(-11.77,-43.72) 1(-11.77,-43.05) 1(-11.77,-42.38) 1(-11.77,-41.71) 1(-11.77,-41.03) 1(-11.77,31.62) 1(-11.77,32.29) 1(-11.1,-40.36) 1(-11.1,-39.69) 1(-11.1,-39.02) 1(-11.1,-38.34) 1(-11.1,-37.67) 1(-11.1,32.96) 1(-10.43,-37) 1(-10.43,-36.32) 1(-10.43,-35.65) 1(-10.43,-34.98) 1(-10.43,-34.31) 1(-10.43,33.63) 1(-10.43,34.31) 1(-9.75,-33.63) 1(-9.75,-32.96) 1(-9.75,34.98) 1(-9.75,35.65) 1(-9.08,36.33) 1(-8.41,37) 1(-8.41,37.67) 1(-7.74,38.34) 1(-7.74,39.02) 1(-7.06,29.6) 1(-7.06,39.69) 1(-6.39,40.36) 1(-6.39,41.03) 1(-5.72,41.71) 1(-5.72,42.38) 1(-5.05,43.05) 1(-4.37,43.72) 1(-4.37,44.4) 1(-3.7,45.07) 1(-3.7,45.74) 1(-3.03,30.27) 1(-3.03,46.42) 1(-2.35,47.09) 1(-2.35,47.76) 1(-1.68,48.43) 1(-1.68,49.11) 1(-1.01,49.78) 1(-0.34,-49.78) 1(-0.34,-49.11) 1(-0.34,-48.43) 1(-0.34,-47.76) 1(-0.34,-47.09) 1(-0.34,-46.41) 1(-0.34,-45.74) 1(-0.34,-45.07) 1(-0.34,-44.4) 1(-0.34,-43.72) 1(-0.34,-43.05) 1(-0.34,-42.38) 1(-0.34,-41.71) 1(-0.34,-41.03) 1(-0.34,-32.29) 1(-0.34,30.94) 1(-0.34,50.45) 1(-0.34,51.12) 1(0.34,-51.8) 1(0.34,-51.12) 1(0.34,-50.45) 1(0.34,-40.36) 1(0.34,-39.69) 1(0.34,-39.02) 1(0.34,-38.34) 1(0.34,-31.62) 1(0.34,-30.94) 1(0.34,-30.27) 1(0.34,-29.6) 1(0.34,51.8) 1(0.34,52.47) 1(1.01,-53.14) 1(1.01,-52.47) 1(1.01,-37.67) 1(1.01,-37) 1(1.01,-28.93) 1(1.01,-28.25) 1(1.01,31.62) 1(1.01,53.14) 1(1.68,-53.81) 1(1.68,-36.32) 1(1.68,-35.65) 1(1.68,53.81) 1(1.68,54.49) 1(2.35,-55.16) 1(2.35,-54.49) 1(2.35,-34.98) 1(2.35,-34.31) 1(2.35,32.29) 1(2.35,55.16) 1(2.35,55.83) 1(3.03,-55.83) 1(3.03,-33.63) 1(3.03,12.78) 1(3.03,13.45) 1(3.03,56.51) 1(3.7,-56.51) 1(3.7,-32.96) 1(3.7,-32.29) 1(3.7,10.76) 1(3.7,11.44) 1(3.7,12.11) 1(3.7,32.96) 1(3.7,57.18) 1(3.7,57.85) 1(4.37,-31.62) 1(4.37,9.42) 1(4.37,10.09) 1(4.37,58.52) 1(4.37,59.2) 1(5.05,-57.18) 1(5.05,-49.78) 1(5.05,-49.11) 1(5.05,-48.43) 1(5.05,-47.76) 1(5.05,-47.09) 1(5.05,-46.41) 1(5.05,-45.74) 1(5.05,-45.07) 1(5.05,-44.4) 1(5.05,-43.72) 1(5.05,-43.05) 1(5.05,-42.38) 1(5.05,-41.71) 1(5.05,-41.03) 1(5.05,7.4) 1(5.05,8.07) 1(5.05,8.74) 1(5.05,33.63) 1(5.72,-57.85) 1(5.72,-51.12) 1(5.72,-50.45) 1(5.72,-40.36) 1(5.72,-39.69) 1(5.72,-39.02) 1(5.72,-30.94) 1(5.72,5.38) 1(5.72,6.05) 1(5.72,6.73) 1(5.72,34.31) 1(6.39,-51.8) 1(6.39,-38.34) 1(6.39,-37.67) 1(6.39,-30.27) 1(6.39,4.04) 1(6.39,4.71) 1(6.39,14.13) 1(6.39,34.98) 1(7.06,-58.52) 1(7.06,-52.47) 1(7.06,-37) 1(7.06,-36.32) 1(7.06,-29.6) 1(7.06,2.02) 1(7.06,2.69) 1(7.06,3.36) 1(7.06,35.65) 1(7.74,-53.14) 1(7.74,-35.65) 1(7.74,0) 1(7.74,0.67) 1(7.74,1.35) 1(8.41,-53.81) 1(8.41,-34.98) 1(8.41,-28.93) 1(8.41,-2.02) 1(8.41,-1.35) 1(8.41,-0.67) 1(8.41,36.33) 1(9.08,-34.31) 1(9.08,-3.36) 1(9.08,-2.69) 1(9.08,37) 1(9.75,-59.2) 1(9.75,-54.49) 1(9.75,-33.63) 1(9.75,-28.25) 1(9.75,-5.38) 1(9.75,-4.71) 1(9.75,-4.04) 1(9.75,14.8) 1(9.75,37.67) 1(10.43,-32.96) 1(10.43,-7.4) 1(10.43,-6.73) 1(10.43,-6.05) 1(10.43,38.34) 1(10.43,39.02) 1(11.1,-8.74) 1(11.1,-8.07) 1(11.1,39.69) 1(11.77,-32.29) 1(11.77,-27.58) 1(11.77,-10.76) 1(11.77,-10.09) 1(11.77,-9.42) 1(11.77,15.47) 1(11.77,40.36) 1(12.44,-55.16) 1(12.44,-10.76) 1(12.44,41.03) 1(13.12,-31.62) 1(13.12,-10.09) 1(13.12,41.71) 1(13.12,42.38) 1(13.79,-9.42) 1(13.79,-8.74) 1(13.79,16.14) 1(13.79,43.05) 1(14.46,-55.16) 1(14.46,-8.07) 1(14.46,43.72) 1(15.14,-7.4) 1(15.14,-6.73) 1(15.14,16.82) 1(15.14,44.4) 1(15.14,45.07) 1(15.81,-6.05) 1(15.81,-5.38) 1(15.81,45.74) 1(15.81,46.42) 1(16.48,-59.2) 1(16.48,-54.49) 1(16.48,-4.71) 1(16.48,17.49) 1(16.48,47.09) 1(17.15,-4.04) 1(17.15,-3.36) 1(17.15,47.76) 1(17.15,48.43) 1(17.83,-53.81) 1(17.83,-2.69) 1(17.83,-2.02) 1(17.83,18.16) 1(17.83,49.11) 1(17.83,49.78) 1(18.5,-58.52) 1(18.5,-31.62) 1(18.5,-1.35) 1(18.5,50.45) 1(19.17,-53.14) 1(19.17,-0.67) 1(19.17,0) 1(19.17,18.84) 1(19.17,51.12) 1(19.17,51.8) 1(19.84,-52.47) 1(19.84,-32.29) 1(19.84,-27.58) 1(19.84,0.67) 1(19.84,1.35) 1(19.84,19.51) 1(19.84,52.47) 1(19.84,53.14) 1(20.52,-57.85) 1(20.52,-51.8) 1(20.52,2.02) 1(20.52,53.81) 1(20.52,54.49) 1(21.19,-57.18) 1(21.19,-51.12) 1(21.19,-50.45) 1(21.19,-32.96) 1(21.19,2.69) 1(21.19,3.36) 1(21.19,20.18) 1(21.19,55.16) 1(21.19,55.83) 1(21.86,-49.78) 1(21.86,-49.11) 1(21.86,-33.63) 1(21.86,-28.25) 1(21.86,4.04) 1(21.86,20.85) 1(21.86,56.51) 1(21.86,57.18) 1(22.53,-56.51) 1(22.53,-48.43) 1(22.53,-47.76) 1(22.53,-34.98) 1(22.53,-34.31) 1(22.53,4.71) 1(22.53,5.38) 1(22.53,57.85) 1(22.53,58.52) 1(23.21,-55.83) 1(23.21,-47.09) 1(23.21,-46.41) 1(23.21,-45.74) 1(23.21,-45.07) 1(23.21,-37) 1(23.21,-36.32) 1(23.21,-35.65) 1(23.21,-28.93) 1(23.21,6.05) 1(23.21,6.73) 1(23.21,21.53) 1(23.88,-55.16) 1(23.88,-44.4) 1(23.88,-43.72) 1(23.88,-43.05) 1(23.88,-42.38) 1(23.88,-41.71) 1(23.88,-41.03) 1(23.88,-40.36) 1(23.88,-39.69) 1(23.88,-39.02) 1(23.88,-38.34) 1(23.88,-37.67) 1(23.88,7.4) 1(23.88,22.2) 1(24.55,-54.49) 1(24.55,-29.6) 1(24.55,8.07) 1(24.55,8.74) 1(24.55,22.87) 1(25.23,-53.81) 1(25.23,-30.27) 1(25.23,9.42) 1(25.23,10.09) 1(25.23,23.54) 1(25.9,-53.14) 1(25.9,-52.47) 1(25.9,-30.94) 1(25.9,10.76) 1(25.9,24.22) 1(26.57,-51.8) 1(26.57,-32.29) 1(26.57,-31.62) 1(26.57,11.44) 1(26.57,12.11) 1(26.57,24.89) 1(27.24,-51.12) 1(27.24,-50.45) 1(27.24,-32.96) 1(27.24,12.78) 1(27.24,13.45) 1(27.24,25.56) 1(27.92,-49.78) 1(27.92,-49.11) 1(27.92,-48.43) 1(27.92,-34.31) 1(27.92,-33.63) 1(27.92,14.13) 1(27.92,26.23) 1(28.59,-47.76) 1(28.59,-47.09) 1(28.59,-46.41) 1(28.59,-45.74) 1(28.59,-45.07) 1(28.59,-37) 1(28.59,-36.32) 1(28.59,-35.65) 1(28.59,-34.98) 1(28.59,14.8) 1(28.59,15.47) 1(28.59,26.91) 1(28.59,27.58) 1(29.26,-44.4) 1(29.26,-43.72) 1(29.26,-43.05) 1(29.26,-42.38) 1(29.26,-41.71) 1(29.26,-41.03) 1(29.26,-40.36) 1(29.26,-39.69) 1(29.26,-39.02) 1(29.26,-38.34) 1(29.26,-37.67) 1(29.26,16.14) 1(29.26,28.25) 1(29.93,16.82) 1(29.93,17.49) 1(29.93,28.93) 1(30.61,18.16) 1(30.61,18.84) 1(30.61,29.6) 1(30.61,30.27) 1(31.28,19.51) 1(31.28,30.94) 1(31.95,20.18) 1(31.95,20.85) 1(31.95,31.62) 1(31.95,32.29) 1(32.63,-49.78) 1(32.63,-49.11) 1(32.63,-48.43) 1(32.63,-47.76) 1(32.63,-47.09) 1(32.63,-46.41) 1(32.63,-45.74) 1(32.63,-45.07) 1(32.63,-44.4) 1(32.63,-43.72) 1(32.63,-43.05) 1(32.63,-42.38) 1(32.63,-41.71) 1(32.63,-41.03) 1(32.63,21.53) 1(32.63,22.2) 1(32.63,32.96) 1(33.3,-51.8) 1(33.3,-51.12) 1(33.3,-50.45) 1(33.3,-40.36) 1(33.3,-39.69) 1(33.3,-39.02) 1(33.3,-38.34) 1(33.3,22.87) 1(33.3,33.63) 1(33.3,34.31) 1(33.97,-53.14) 1(33.97,-52.47) 1(33.97,-37.67) 1(33.97,-37) 1(33.97,23.54) 1(33.97,24.22) 1(33.97,34.98) 1(33.97,35.65) 1(34.64,-54.49) 1(34.64,-53.81) 1(34.64,-36.32) 1(34.64,-35.65) 1(34.64,24.89) 1(34.64,36.33) 1(34.64,37) 1(35.32,-55.16) 1(35.32,-34.98) 1(35.32,-34.31) 1(35.32,25.56) 1(35.32,26.23) 1(35.32,37.67) 1(35.99,-55.83) 1(35.99,-33.63) 1(35.99,26.91) 1(35.99,27.58) 1(35.99,38.34) 1(35.99,39.02) 1(36.66,-56.51) 1(36.66,-32.96) 1(36.66,-32.29) 1(36.66,28.25) 1(36.66,39.69) 1(36.66,40.36) 1(37.33,-45.74) 1(37.33,-31.62) 1(37.33,28.93) 1(37.33,29.6) 1(37.33,41.03) 1(38.01,-57.18) 1(38.01,-49.78) 1(38.01,-49.11) 1(38.01,-48.43) 1(38.01,-47.76) 1(38.01,-47.09) 1(38.01,-46.41) 1(38.01,-45.07) 1(38.01,-44.4) 1(38.01,-43.72) 1(38.01,-43.05) 1(38.01,-42.38) 1(38.01,-41.71) 1(38.01,-41.03) 1(38.01,-30.94) 1(38.01,30.27) 1(38.01,41.71) 1(38.01,42.38) 1(38.68,-57.85) 1(38.68,-51.12) 1(38.68,-50.45) 1(38.68,-40.36) 1(38.68,-39.69) 1(38.68,-39.02) 1(38.68,30.94) 1(38.68,43.05) 1(38.68,43.72) 1(39.35,-51.8) 1(39.35,-38.34) 1(39.35,-37.67) 1(39.35,-30.27) 1(39.35,31.62) 1(39.35,32.29) 1(39.35,44.4) 1(40.02,-58.52) 1(40.02,-53.14) 1(40.02,-52.47) 1(40.02,-37) 1(40.02,-36.32) 1(40.02,-29.6) 1(40.02,-12.78) 1(40.02,32.96) 1(40.02,45.07) 1(40.02,45.74) 1(40.7,-35.65) 1(40.7,-12.11) 1(40.7,-11.44) 1(40.7,33.63) 1(40.7,46.42) 1(40.7,47.09) 1(41.37,-53.81) 1(41.37,-34.98) 1(41.37,-28.93) 1(41.37,-10.76) 1(41.37,-10.09) 1(41.37,34.31) 1(41.37,34.98) 1(41.37,47.76) 1(42.04,-34.31) 1(42.04,-9.42) 1(42.04,35.65) 1(42.04,48.43) 1(42.04,49.11) 1(42.72,-59.2) 1(42.72,-54.49) 1(42.72,-33.63) 1(42.72,-28.25) 1(42.72,-8.74) 1(42.72,-8.07) 1(42.72,36.33) 1(42.72,49.78) 1(42.72,50.45) 1(43.39,-32.96) 1(43.39,-7.4) 1(43.39,-6.73) 1(43.39,37) 1(43.39,51.12) 1(44.06,-6.05) 1(44.06,-5.38) 1(44.06,37.67) 1(44.06,51.8) 1(44.06,52.47) 1(44.73,-32.29) 1(44.73,-27.58) 1(44.73,-4.71) 1(44.73,38.34) 1(44.73,39.02) 1(44.73,53.14) 1(44.73,53.81) 1(45.41,-55.16) 1(45.41,-4.04) 1(45.41,-3.36) 1(45.41,39.69) 1(45.41,54.49) 1(46.08,-31.62) 1(46.08,-2.69) 1(46.08,-2.02) 1(46.08,40.36) 1(46.08,55.16) 1(46.08,55.83) 1(46.75,-1.35) 1(46.75,41.03) 1(46.75,56.51) 1(46.75,57.18) 1(46.75,59.2) 1(47.42,-55.16) 1(47.42,-46.41) 1(47.42,-45.74) 1(47.42,-45.07) 1(47.42,-44.4) 1(47.42,-43.72) 1(47.42,-0.67) 1(47.42,0) 1(47.42,41.71) 1(47.42,57.85) 1(48.1,-59.2) 1(48.1,-43.05) 1(48.1,0.67) 1(48.1,1.35) 1(48.1,42.38) 1(48.1,58.52) 1(48.1,59.2) 1(48.77,2.02) 1(48.77,43.05) 1(49.44,2.69) 1(49.44,3.36) 1(49.44,43.72) 1(50.11,-58.52) 1(50.11,-54.49) 1(50.11,4.04) 1(50.11,4.71) 1(50.11,44.4) 1(50.79,-53.81) 1(50.79,5.38) 1(50.79,45.07) 1(51.46,-57.85) 1(51.46,-31.62) 1(51.46,6.05) 1(51.46,6.73) 1(52.13,-57.18) 1(52.13,-53.14) 1(52.13,7.4) 1(52.13,8.07) 1(52.13,45.74) 1(52.81,-52.47) 1(52.81,8.74) 1(52.81,46.42) 1(53.48,-56.51) 1(53.48,-51.8) 1(53.48,-51.12) 1(53.48,-32.29) 1(53.48,-27.58) 1(53.48,9.42) 1(53.48,10.09) 1(53.48,47.09) 1(54.15,-58.52) 1(54.15,-57.85) 1(54.15,-57.18) 1(54.15,-56.51) 1(54.15,-50.45) 1(54.15,-49.78) 1(54.15,-32.96) 1(54.15,10.76) 1(54.15,11.44) 1(54.15,47.76) 1(54.82,-49.11) 1(54.82,-48.43) 1(54.82,-33.63) 1(54.82,12.11) 1(54.82,48.43) 1(55.5,-47.76) 1(55.5,-47.09) 1(55.5,-34.98) 1(55.5,-34.31) 1(55.5,-28.25) 1(55.5,12.78) 1(55.5,13.45) 1(56.17,-37) 1(56.17,-36.32) 1(56.17,-35.65) 1(56.17,14.13) 1(56.17,14.8) 1(56.17,49.11) 1(56.84,-28.93) 1(56.84,15.47) 1(56.84,49.78) 1(57.51,-58.52) 1(57.51,-57.85) 1(57.51,16.14) 1(57.51,16.82) 1(58.19,-57.18) 1(58.19,-56.51) 1(58.19,-55.83) 1(58.19,-55.16) 1(58.19,-29.6) 1(58.19,-12.78) 1(58.19,17.49) 1(58.19,18.16) 1(58.19,50.45) 1(58.86,-54.49) 1(58.86,-53.81) 1(58.86,-53.14) 1(58.86,-52.47) 1(58.86,-51.8) 1(58.86,-30.27) 1(58.86,-12.11) 1(58.86,-11.44) 1(58.86,18.84) 1(58.86,51.12) 1(59.53,-51.12) 1(59.53,-50.45) 1(59.53,-49.78) 1(59.53,-49.11) 1(59.53,-48.43) 1(59.53,-31.62) 1(59.53,-30.94) 1(59.53,-10.76) 1(59.53,-10.09) 1(59.53,19.51) 1(59.53,20.18) 1(60.2,-47.76) 1(60.2,-47.09) 1(60.2,-46.41) 1(60.2,-45.74) 1(60.2,-45.07) 1(60.2,-32.29) 1(60.2,-9.42) 1(60.2,20.85) 1(60.2,21.53) 1(60.2,51.8) 1(60.88,-44.4) 1(60.88,-43.72) 1(60.88,-43.05) 1(60.88,-34.31) 1(60.88,-33.63) 1(60.88,-32.96) 1(60.88,-8.74) 1(60.88,-8.07) 1(60.88,22.2) 1(60.88,52.47) 1(61.55,-37) 1(61.55,-36.32) 1(61.55,-35.65) 1(61.55,-34.98) 1(61.55,-7.4) 1(61.55,-6.73) 1(61.55,22.87) 1(61.55,23.54) 1(62.22,-6.05) 1(62.22,24.22) 1(62.22,24.89) 1(62.22,53.14) 1(62.9,-5.38) 1(62.9,-4.71) 1(62.9,25.56) 1(63.57,-4.04) 1(63.57,-3.36) 1(63.57,26.23) 1(63.57,26.91) 1(63.57,53.81) 1(64.24,-58.52) 1(64.24,-57.85) 1(64.24,-57.18) 1(64.24,-56.51) 1(64.24,-2.69) 1(64.24,27.58) 1(64.91,-55.83) 1(64.91,-55.16) 1(64.91,-54.49) 1(64.91,-53.81) 1(64.91,-53.14) 1(64.91,-2.02) 1(64.91,-1.35) 1(64.91,28.25) 1(64.91,54.49) 1(65.59,-52.47) 1(65.59,-51.8) 1(65.59,-51.12) 1(65.59,-50.45) 1(65.59,-49.78) 1(65.59,-0.67) 1(65.59,0) 1(65.59,28.93) 1(66.26,-49.11) 1(66.26,-48.43) 1(66.26,-47.76) 1(66.26,-47.09) 1(66.26,-46.41) 1(66.26,0.67) 1(66.26,55.16) 1(66.93,-45.74) 1(66.93,-45.07) 1(66.93,-44.4) 1(66.93,-43.72) 1(66.93,-43.05) 1(66.93,1.35) 1(66.93,2.02) 1(66.93,29.6) 1(67.6,-42.38) 1(67.6,-41.71) 1(67.6,-41.03) 1(67.6,-40.36) 1(67.6,-39.69) 1(67.6,2.69) 1(67.6,3.36) 1(67.6,55.83) 1(68.28,-39.02) 1(68.28,-38.34) 1(68.28,-37.67) 1(68.28,-37) 1(68.28,4.04) 1(68.95,-36.32) 1(68.95,-35.65) 1(68.95,-34.98) 1(68.95,-34.31) 1(68.95,-33.63) 1(68.95,4.71) 1(68.95,5.38) 1(68.95,56.51) 1(69.62,-58.52) 1(69.62,-57.85) 1(69.62,-57.18) 1(69.62,-56.51) 1(69.62,-32.96) 1(69.62,-32.29) 1(69.62,-31.62) 1(69.62,-30.94) 1(69.62,-30.27) 1(69.62,6.05) 1(69.62,6.73) 1(70.3,-55.83) 1(70.3,-55.16) 1(70.3,-54.49) 1(70.3,-53.81) 1(70.3,-53.14) 1(70.3,-29.6) 1(70.3,-28.93) 1(70.3,-28.25) 1(70.3,7.4) 1(70.3,8.07) 1(70.97,-52.47) 1(70.97,-51.8) 1(70.97,-51.12) 1(70.97,-50.45) 1(70.97,-49.78) 1(70.97,8.74) 1(70.97,57.18) 1(71.64,-49.11) 1(71.64,-48.43) 1(71.64,-47.76) 1(71.64,-47.09) 1(71.64,-46.41) 1(71.64,9.42) 1(71.64,10.09) 1(72.31,10.76) 1(72.31,11.44) 1(72.99,-41.71) 1(72.99,-41.03) 1(72.99,-40.36) 1(72.99,-39.69) 1(72.99,12.11) 1(73.66,-39.02) 1(73.66,-38.34) 1(73.66,-37.67) 1(73.66,-37) 1(73.66,-36.32) 1(73.66,12.78) 1(73.66,13.45) 1(73.66,57.85) 1(74.33,-35.65) 1(74.33,-34.98) 1(74.33,-34.31) 1(74.33,-33.63) 1(74.33,-32.96) 1(74.33,14.13) 1(74.33,14.8) 1(75,-32.29) 1(75,15.47) 1(75.68,16.14) 1(75.68,16.82) 1(76.35,17.49) 1(76.35,18.16) 1(76.35,58.52) 1(77.02,18.84) 1(77.69,19.51) 1(77.69,20.18) 1(78.37,20.85) 1(78.37,21.53) 1(79.04,22.2) 1(79.71,22.87) 1(79.71,23.54) 1(80.39,24.22) 1(80.39,24.89) 1(81.06,25.56) 1(81.73,26.23) 1(81.73,26.91) 1(82.4,-46.41) 1(82.4,27.58) 1(82.4,28.25) 1(83.08,-41.71) 1(83.08,28.93) 1(83.08,29.6) 1(83.75,-58.52) 1(83.75,-57.85) 1(83.75,-57.18) 1(83.75,-56.51) 1(83.75,-55.83) 1(83.75,-55.16) 1(83.75,-54.49) 1(83.75,-53.81) 1(83.75,-53.14) 1(83.75,-47.76) 1(83.75,-47.09) 1(84.42,-52.47) 1(84.42,-51.8) 1(84.42,-51.12) 1(84.42,-50.45) 1(84.42,-49.78) 1(84.42,-49.11) 1(84.42,-48.43) 1(85.09,-41.03) 1(85.09,-32.29) 1(86.44,-44.4) 1(86.44,-40.36) 1(86.44,-32.96) 1(87.11,-39.69) 1(87.11,-39.02) 1(87.11,-33.63) 1(87.79,-45.07) 1(87.79,-43.72) 1(87.79,-38.34) 1(87.79,-37.67) 1(87.79,-37) 1(87.79,-36.32) 1(87.79,-35.65) 1(87.79,-34.98) 1(87.79,-34.31) 1(87.79,-28.25) 1(87.79,-12.78) 1(87.79,-12.11) 1(88.46,-45.74) 1(88.46,-11.44) 1(89.13,-57.85) 1(89.13,-57.18) 1(89.13,-56.51) 1(89.13,-55.83) 1(89.13,-55.16) 1(89.13,-54.49) 1(89.13,-53.81) 1(89.13,-53.14) 1(89.13,-52.47) 1(89.13,-51.8) 1(89.13,-47.76) 1(89.13,-47.09) 1(89.13,-46.41) 1(89.13,-43.05) 1(89.13,-10.76) 1(89.13,-10.09) 1(89.8,-58.52) 1(89.8,-51.12) 1(89.8,-50.45) 1(89.8,-49.78) 1(89.8,-49.11) 1(89.8,-48.43) 1(89.8,-28.93) 1(89.8,-9.42) 1(89.8,-8.74) 1(90.48,-42.38) 1(90.48,-29.6) 1(90.48,-8.07) 1(91.15,-41.71) 1(91.15,-30.27) 1(91.15,-7.4) 1(91.15,-6.73) 1(91.82,-58.52) 1(91.82,-41.03) 1(91.82,-40.36) 1(91.82,-30.94) 1(91.82,-6.05) 1(91.82,-5.38) 1(92.49,-57.85) 1(92.49,-39.69) 1(92.49,-39.02) 1(92.49,-32.29) 1(92.49,-31.62) 1(92.49,-12.78) 1(92.49,-4.71) 1(93.17,-57.18) 1(93.17,-56.51) 1(93.17,-38.34) 1(93.17,-37.67) 1(93.17,-37) 1(93.17,-36.32) 1(93.17,-35.65) 1(93.17,-34.98) 1(93.17,-34.31) 1(93.17,-33.63) 1(93.17,-32.96) 1(93.17,-12.11) 1(93.17,-11.44) 1(93.17,-4.04) 1(93.17,-3.36) 1(93.84,-55.83) 1(93.84,-55.16) 1(93.84,-10.76) 1(93.84,-10.09) 1(93.84,-2.69) 1(93.84,-2.02) 1(94.51,-54.49) 1(94.51,-9.42) 1(94.51,-1.35) 1(95.18,-53.81) 1(95.18,-53.14) 1(95.18,-8.74) 1(95.18,-8.07) 1(95.18,-0.67) 1(95.18,0) 1(95.86,-52.47) 1(95.86,-51.8) 1(95.86,-7.4) 1(95.86,-6.73) 1(95.86,0.67) 1(95.86,1.35) 1(96.53,-51.12) 1(96.53,-50.45) 1(96.53,-6.05) 1(96.53,2.02) 1(97.2,-49.78) 1(97.2,-5.38) 1(97.2,-4.71) 1(97.2,2.69) 1(97.2,3.36) 1(97.88,-58.52) 1(97.88,-57.85) 1(97.88,-49.11) 1(97.88,-48.43) 1(97.88,-4.04) 1(97.88,-3.36) 1(97.88,4.04) 1(97.88,4.71) 1(98.55,-57.18) 1(98.55,-47.76) 1(98.55,-47.09) 1(98.55,-2.69) 1(98.55,5.38) 1(99.22,-56.51) 1(99.22,-55.83) 1(99.22,-46.41) 1(99.22,-2.02) 1(99.22,-1.35) 1(99.22,6.05) 1(99.22,6.73) 1(99.89,-55.16) 1(99.89,-54.49) 1(99.89,-45.74) 1(99.89,-45.07) 1(99.89,-0.67) 1(99.89,0) 1(99.89,7.4) 1(99.89,8.07) 1(100.57,-53.81) 1(100.57,-53.14) 1(100.57,-44.4) 1(100.57,-43.72) 1(100.57,0.67) 1(100.57,8.74) 1(101.24,-52.47) 1(101.24,-43.05) 1(101.24,1.35) 1(101.24,2.02) 1(101.24,9.42) 1(101.24,10.09) 1(101.91,-51.8) 1(101.91,-51.12) 1(101.91,-42.38) 1(101.91,-41.71) 1(101.91,2.69) 1(101.91,3.36) 1(101.91,10.76) 1(101.91,11.44) 1(102.58,-41.03) 1(102.58,-40.36) 1(102.58,4.04) 1(102.58,12.11) 1(103.26,-39.69) 1(103.26,4.71) 1(103.26,5.38) 1(103.26,12.78) 1(103.26,13.45) 1(103.93,-39.02) 1(103.93,-38.34) 1(103.93,6.05) 1(103.93,6.73) 1(103.93,14.13) 1(103.93,14.8) 1(104.6,-46.41) 1(104.6,-37.67) 1(104.6,-37) 1(104.6,7.4) 1(104.6,15.47) 1(105.27,-45.74) 1(105.27,-45.07) 1(105.27,-36.32) 1(105.27,8.07) 1(105.27,8.74) 1(105.27,16.14) 1(105.27,16.82) 1(105.95,-44.4) 1(105.95,-43.72) 1(105.95,-35.65) 1(105.95,-34.98) 1(105.95,9.42) 1(105.95,10.09) 1(105.95,17.49) 1(105.95,18.16) 1(106.62,-43.05) 1(106.62,-42.38) 1(106.62,-34.31) 1(106.62,-33.63) 1(106.62,10.76) 1(106.62,18.84) 1(107.29,-41.71) 1(107.29,-41.03) 1(107.29,-32.96) 1(107.29,-32.29) 1(107.29,11.44) 1(107.29,12.11) 1(107.29,19.51) 1(107.29,20.18) 1(107.97,-40.36) 1(107.97,-31.62) 1(107.97,12.78) 1(107.97,13.45) 1(107.97,20.85) 1(107.97,21.53) 1(108.64,-39.69) 1(108.64,-39.02) 1(108.64,-30.94) 1(108.64,-30.27) 1(108.64,14.13) 1(108.64,22.2) 1(109.31,-38.34) 1(109.31,-37.67) 1(109.31,-29.6) 1(109.31,-28.93) 1(109.31,14.8) 1(109.31,15.47) 1(109.31,22.87) 1(109.31,23.54) 1(109.98,-37) 1(109.98,-36.32) 1(109.98,-28.25) 1(109.98,16.14) 1(109.98,16.82) 1(109.98,24.22) 1(109.98,24.89) 1(110.66,-35.65) 1(110.66,-34.98) 1(110.66,17.49) 1(110.66,25.56) 1(111.33,-34.31) 1(111.33,18.16) 1(111.33,18.84) 1(111.33,26.23) 1(111.33,26.91) 1(112,-34.31) 1(112,19.51) 1(112,20.18) 1(112,27.58) 1(112,28.25) 1(112.67,-39.02) 1(112.67,-38.34) 1(112.67,-37.67) 1(112.67,-37) 1(112.67,-36.32) 1(112.67,-35.65) 1(112.67,-34.98) 1(112.67,20.85) 1(112.67,21.53) 1(112.67,28.93) 1(113.35,-43.72) 1(113.35,-43.05) 1(113.35,-42.38) 1(113.35,-41.71) 1(113.35,-41.03) 1(113.35,-40.36) 1(113.35,-39.69) 1(113.35,22.2) 1(113.35,29.6) 1(113.35,30.27) 1(114.02,-46.41) 1(114.02,-45.74) 1(114.02,-45.07) 1(114.02,-44.4) 1(114.02,22.87) 1(114.02,23.54) 1(114.02,30.94) 1(114.02,31.62) 1(114.69,-53.14) 1(114.69,-52.47) 1(114.69,-51.8) 1(114.69,-51.12) 1(114.69,24.22) 1(114.69,24.89) 1(114.69,32.29) 1(115.37,-57.18) 1(115.37,-56.51) 1(115.37,-55.83) 1(115.37,-55.16) 1(115.37,-54.49) 1(115.37,-53.81) 1(115.37,25.56) 1(115.37,32.96) 1(115.37,33.63) 1(116.04,-58.52) 1(116.04,-57.85) 1(116.04,-30.27) 1(116.04,-29.6) 1(116.04,-28.93) 1(116.04,-28.25) 1(116.04,26.23) 1(116.04,26.91) 1(116.04,34.31) 1(116.04,34.98) 1(116.71,-34.31) 1(116.71,-33.63) 1(116.71,-32.96) 1(116.71,-32.29) 1(116.71,-31.62) 1(116.71,-30.94) 1(116.71,27.58) 1(116.71,28.25) 1(116.71,35.65) 1(117.38,-38.34) 1(117.38,-37.67) 1(117.38,-37) 1(117.38,-36.32) 1(117.38,-35.65) 1(117.38,-34.98) 1(117.38,-12.78) 1(117.38,-12.11) 1(117.38,28.93) 1(117.38,36.33) 1(117.38,37) 1(118.06,-41.71) 1(118.06,-41.03) 1(118.06,-40.36) 1(118.06,-39.69) 1(118.06,-39.02) 1(118.06,-11.44) 1(118.06,-10.76) 1(118.06,29.6) 1(118.06,30.27) 1(118.06,37.67) 1(118.06,38.34) 1(118.73,-45.74) 1(118.73,-45.07) 1(118.73,-44.4) 1(118.73,-43.72) 1(118.73,-43.05) 1(118.73,-42.38) 1(118.73,-10.09) 1(118.73,30.94) 1(118.73,31.62) 1(118.73,39.02) 1(119.4,-49.78) 1(119.4,-49.11) 1(119.4,-48.43) 1(119.4,-47.76) 1(119.4,-47.09) 1(119.4,-46.41) 1(119.4,-9.42) 1(119.4,-8.74) 1(119.4,32.29) 1(119.4,39.69) 1(119.4,40.36) 1(120.07,-53.81) 1(120.07,-53.14) 1(120.07,-52.47) 1(120.07,-51.8) 1(120.07,-51.12) 1(120.07,-50.45) 1(120.07,-8.07) 1(120.07,-7.4) 1(120.07,32.96) 1(120.07,33.63) 1(120.07,41.03) 1(120.07,41.71) 1(120.75,-57.85) 1(120.75,-57.18) 1(120.75,-56.51) 1(120.75,-55.83) 1(120.75,-55.16) 1(120.75,-54.49) 1(120.75,-6.73) 1(120.75,-6.05) 1(120.75,34.31) 1(120.75,34.98) 1(120.75,42.38) 1(120.75,43.05) 1(121.42,-58.52) 1(121.42,-5.38) 1(121.42,35.65) 1(121.42,43.72) 1(122.09,-4.71) 1(122.09,-4.04) 1(122.09,36.33) 1(122.09,37) 1(122.09,44.4) 1(122.09,45.07) 1(122.76,-3.36) 1(122.76,-2.69) 1(122.76,37.67) 1(122.76,38.34) 1(122.76,45.74) 1(122.76,46.42) 1(123.44,-2.02) 1(123.44,39.02) 1(123.44,47.09) 1(124.11,-58.52) 1(124.11,-1.35) 1(124.11,-0.67) 1(124.11,39.69) 1(124.11,40.36) 1(124.11,47.76) 1(124.11,48.43) 1(124.78,-57.85) 1(124.78,-57.18) 1(124.78,-56.51) 1(124.78,-55.83) 1(124.78,0) 1(124.78,0.67) 1(124.78,41.03) 1(124.78,41.71) 1(124.78,49.11) 1(124.78,49.78) 1(125.46,-55.16) 1(125.46,-54.49) 1(125.46,-53.81) 1(125.46,-53.14) 1(125.46,-52.47) 1(125.46,1.35) 1(125.46,42.38) 1(125.46,50.45) 1(126.13,-51.8) 1(126.13,-51.12) 1(126.13,-50.45) 1(126.13,-49.78) 1(126.13,-49.11) 1(126.13,2.02) 1(126.13,2.69) 1(126.13,43.05) 1(126.13,43.72) 1(126.13,51.12) 1(126.13,51.8) 1(126.8,-48.43) 1(126.8,-47.76) 1(126.8,-47.09) 1(126.8,-46.41) 1(126.8,-45.74) 1(126.8,3.36) 1(126.8,4.04) 1(126.8,44.4) 1(126.8,45.07) 1(126.8,52.47) 1(126.8,53.14) 1(127.47,-45.07) 1(127.47,-44.4) 1(127.47,-43.72) 1(127.47,-43.05) 1(127.47,-42.38) 1(127.47,4.71) 1(127.47,45.74) 1(127.47,53.81) 1(128.15,-41.71) 1(128.15,-41.03) 1(128.15,-40.36) 1(128.15,-39.69) 1(128.15,-39.02) 1(128.15,5.38) 1(128.15,6.05) 1(128.15,46.42) 1(128.15,47.09) 1(128.15,54.49) 1(128.15,55.16) 1(128.82,-38.34) 1(128.82,-37.67) 1(128.82,-37) 1(128.82,-36.32) 1(128.82,-35.65) 1(128.82,6.73) 1(128.82,7.4) 1(128.82,47.76) 1(128.82,48.43) 1(128.82,55.83) 1(128.82,56.51) 1(129.49,-58.52) 1(129.49,-57.85) 1(129.49,-34.98) 1(129.49,-34.31) 1(129.49,-33.63) 1(129.49,-32.96) 1(129.49,-32.29) 1(129.49,8.07) 1(129.49,49.11) 1(129.49,57.18) 1(130.16,-57.18) 1(130.16,-56.51) 1(130.16,-55.83) 1(130.16,-55.16) 1(130.16,-31.62) 1(130.16,-30.94) 1(130.16,-30.27) 1(130.16,-29.6) 1(130.16,-28.93) 1(130.16,8.74) 1(130.16,9.42) 1(130.16,49.78) 1(130.16,50.45) 1(130.16,57.85) 1(130.16,58.52) 1(130.84,-54.49) 1(130.84,-53.81) 1(130.84,-53.14) 1(130.84,-52.47) 1(130.84,-51.8) 1(130.84,-28.25) 1(130.84,10.09) 1(130.84,10.76) 1(130.84,51.12) 1(130.84,51.8) 1(131.51,-51.12) 1(131.51,-50.45) 1(131.51,-49.78) 1(131.51,-49.11) 1(131.51,-48.43) 1(131.51,11.44) 1(131.51,52.47) 1(132.18,-47.76) 1(132.18,-47.09) 1(132.18,12.11) 1(132.18,12.78) 1(132.18,53.14) 1(132.18,53.81) 1(132.85,-42.38) 1(132.85,-41.71) 1(132.85,13.45) 1(132.85,14.13) 1(132.85,54.49) 1(132.85,55.16) 1(133.53,-41.03) 1(133.53,-40.36) 1(133.53,-39.69) 1(133.53,-39.02) 1(133.53,-38.34) 1(133.53,14.8) 1(133.53,55.83) 1(134.2,-37.67) 1(134.2,-37) 1(134.2,-36.32) 1(134.2,-35.65) 1(134.2,-34.98) 1(134.2,15.47) 1(134.2,16.14) 1(134.2,56.51) 1(134.2,57.18) 1(134.87,-34.31) 1(134.87,-33.63) 1(134.87,-32.96) 1(134.87,-32.29) 1(134.87,16.82) 1(134.87,17.49) 1(134.87,57.85) 1(134.87,58.52) 1(135.55,18.16) 1(135.55,18.84) 1(135.55,59.2) 1(136.22,-12.78) 1(136.22,19.51) 1(136.89,-12.11) 1(136.89,-11.44) 1(136.89,20.18) 1(136.89,20.85) 1(137.56,-10.76) 1(137.56,-10.09) 1(137.56,21.53) 1(137.56,22.2) 1(138.24,-9.42) 1(138.24,22.87) 1(138.91,-8.74) 1(138.91,-8.07) 1(138.91,23.54) 1(138.91,24.22) 1(139.58,-7.4) 1(139.58,-6.73) 1(139.58,24.89) 1(139.58,25.56) 1(140.25,-6.05) 1(140.25,26.23) 1(140.93,-5.38) 1(140.93,-4.71) 1(140.93,26.91) 1(140.93,27.58) 1(141.6,-4.04) 1(141.6,-3.36) 1(141.6,28.25) 1(141.6,28.93) 1(142.27,-2.69) 1(142.27,29.6) 1(142.94,-42.38) 1(142.94,-2.02) 1(142.94,-1.35) 1(143.62,-0.67) 1(143.62,0) 1(144.29,-32.29) 1(144.29,0.67) 1(144.96,-46.41) 1(144.96,-41.71) 1(144.96,1.35) 1(144.96,2.02) 1(145.64,-41.03) 1(145.64,-32.96) 1(145.64,2.69) 1(145.64,3.36) 1(146.31,-40.36) 1(146.31,-39.69) 1(146.31,-33.63) 1(146.31,4.04) 1(146.98,-45.74) 1(146.98,-39.02) 1(146.98,-38.34) 1(146.98,-37.67) 1(146.98,-37) 1(146.98,-36.32) 1(146.98,-35.65) 1(146.98,-34.98) 1(146.98,-34.31) 1(146.98,-28.25) 1(146.98,4.71) 1(146.98,5.38) 1(147.65,6.05) 1(147.65,6.73) 1(148.33,-45.07) 1(148.33,7.4) 1(149,-44.4) 1(149,-28.93) 1(149,8.07) 1(149,8.74) 1(149.67,-43.72) 1(149.67,-29.6) 1(149.67,9.42) 1(149.67,10.09) 1(150.34,-43.05) 1(150.34,-30.27) 1(150.34,10.76) 1(151.02,-42.38) 1(151.02,-41.71) 1(151.02,-30.94) 1(151.02,11.44) 1(151.02,12.11) 1(151.69,-41.03) 1(151.69,-40.36) 1(151.69,-32.29) 1(151.69,-31.62) 1(151.69,12.78) 1(151.69,13.45) 1(152.36,-39.69) 1(152.36,-39.02) 1(152.36,-38.34) 1(152.36,-37.67) 1(152.36,-37) 1(152.36,-36.32) 1(152.36,-35.65) 1(152.36,-34.98) 1(152.36,-34.31) 1(152.36,-33.63) 1(152.36,-32.96) 1(152.36,14.13) 1(153.04,-58.52) 1(153.04,-57.85) 1(153.04,-57.18) 1(153.04,14.8) 1(153.04,15.47) 1(153.71,-56.51) 1(153.71,-55.83) 1(153.71,-55.16) 1(153.71,-54.49) 1(153.71,-53.81) 1(153.71,16.14) 1(153.71,16.82) 1(154.38,-53.14) 1(154.38,-52.47) 1(154.38,-51.8) 1(154.38,-51.12) 1(154.38,-50.45) 1(154.38,17.49) 1(155.05,-49.78) 1(155.05,-49.11) 1(155.05,-48.43) 1(155.05,-47.76) 1(155.05,-47.09) 1(155.05,18.16) 1(155.05,18.84) 1(155.73,-46.41) 1(155.73,-45.74) 1(155.73,-45.07) 1(155.73,-44.4) 1(155.73,-43.72) 1(155.73,19.51) 1(155.73,20.18) 1(156.4,-43.05) 1(156.4,-42.38) 1(156.4,-41.71) 1(156.4,-41.03) 1(156.4,-40.36) 1(156.4,20.85) 1(157.07,-39.69) 1(157.07,-39.02) 1(157.07,-38.34) 1(157.07,-37.67) 1(157.07,-37) 1(157.07,21.53) 1(157.07,22.2) 1(157.74,-36.32) 1(157.74,-35.65) 1(157.74,-34.98) 1(157.74,-34.31) 1(157.74,-33.63) 1(157.74,-12.78) 1(157.74,22.87) 1(157.74,23.54) 1(158.42,-58.52) 1(158.42,-57.85) 1(158.42,-57.18) 1(158.42,-56.51) 1(158.42,-32.96) 1(158.42,-32.29) 1(158.42,-31.62) 1(158.42,-30.94) 1(158.42,-30.27) 1(158.42,-12.11) 1(158.42,-11.44) 1(158.42,24.22) 1(159.09,-55.83) 1(159.09,-55.16) 1(159.09,-54.49) 1(159.09,-53.81) 1(159.09,-53.14) 1(159.09,-29.6) 1(159.09,-28.93) 1(159.09,-28.25) 1(159.09,-10.76) 1(159.09,24.89) 1(159.09,25.56) 1(159.09,29.6) 1(159.76,-52.47) 1(159.76,-51.8) 1(159.76,-51.12) 1(159.76,-50.45) 1(159.76,-49.78) 1(159.76,-10.09) 1(159.76,-9.42) 1(159.76,26.23) 1(159.76,26.91) 1(159.76,27.58) 1(159.76,28.25) 1(159.76,28.93) 1(160.43,-49.11) 1(160.43,-48.43) 1(160.43,-47.76) 1(160.43,-47.09) 1(160.43,-46.41) 1(160.43,-8.74) 1(160.43,-8.07) 1(161.11,-45.74) 1(161.11,-45.07) 1(161.11,-7.4) 1(161.78,-39.69) 1(161.78,-6.73) 1(161.78,-6.05) 1(162.45,-39.02) 1(162.45,-38.34) 1(162.45,-37.67) 1(162.45,-37) 1(162.45,-36.32) 1(162.45,-5.38) 1(162.45,-4.71) 1(163.13,-35.65) 1(163.13,-34.98) 1(163.13,-34.31) 1(163.13,-33.63) 1(163.13,-32.96) 1(163.13,-4.04) 1(163.8,-32.29) 1(163.8,-31.62) 1(163.8,-30.94) 1(163.8,-30.27) 1(163.8,-29.6) 1(163.8,-3.36) 1(163.8,-2.69) 1(164.47,-28.93) 1(164.47,-28.25) 1(164.47,-2.02) 1(164.47,-1.35) 1(165.14,-0.67) 1(165.82,0) 1(165.82,0.67) 1(166.49,1.35) 1(166.49,2.02) 1(167.16,2.69) 1(167.83,3.36) 1(167.83,4.04) 1(168.51,4.71) 1(169.18,5.38) 1(169.18,6.05) 1(169.85,6.73) 1(169.85,7.4) 1(170.52,8.07) 1(171.2,8.74) 1(171.2,9.42) 1(171.87,10.09) 1(171.87,10.76) 1(172.54,-58.52) 1(172.54,-57.85) 1(172.54,11.44) 1(173.22,-57.18) 1(173.22,-56.51) 1(173.22,-55.83) 1(173.22,-55.16) 1(173.22,12.11) 1(173.22,12.78) 1(173.89,-54.49) 1(173.89,-53.81) 1(173.89,-53.14) 1(173.89,-52.47) 1(173.89,-51.8) 1(173.89,-12.78) 1(173.89,13.45) 1(173.89,14.13) 1(174.56,-51.12) 1(174.56,-50.45) 1(174.56,-49.78) 1(174.56,-49.11) 1(174.56,-48.43) 1(174.56,-12.11) 1(174.56,14.8) 1(175.23,-47.76) 1(175.23,-47.09) 1(175.23,-46.41) 1(175.23,-45.74) 1(175.23,-45.07) 1(175.23,-11.44) 1(175.23,-10.76) 1(175.23,15.47) 1(175.23,16.14) 1(175.91,-10.09) 1(175.91,-9.42) 1(175.91,16.82) 1(175.91,17.49) 1(176.58,-39.69) 1(176.58,-39.02) 1(176.58,-38.34) 1(176.58,-8.74) 1(176.58,18.16) 1(177.25,-37.67) 1(177.25,-37) 1(177.25,-36.32) 1(177.25,-35.65) 1(177.25,-34.98) 1(177.25,-8.07) 1(177.25,-7.4) 1(177.25,18.84) 1(177.25,19.51) 1(177.92,-58.52) 1(177.92,-57.85) 1(177.92,-57.18) 1(177.92,-34.31) 1(177.92,-33.63) 1(177.92,-32.96) 1(177.92,-32.29) 1(177.92,-31.62) 1(177.92,-6.73) 1(177.92,-6.05) 1(177.92,20.18) 1(177.92,20.85) 1(178.6,-56.51) 1(178.6,-55.83) 1(178.6,-55.16) 1(178.6,-54.49) 1(178.6,-30.94) 1(178.6,-30.27) 1(178.6,-29.6) 1(178.6,-28.93) 1(178.6,-28.25) 1(178.6,-5.38) 1(178.6,-4.71) 1(178.6,21.53) 1(179.27,-53.81) 1(179.27,-53.14) 1(179.27,-52.47) 1(179.27,-51.8) 1(179.27,-51.12) 1(179.27,-4.04) 1(179.27,22.2) 1(179.27,22.87) 1(179.94,-50.45) 1(179.94,-49.78) 1(179.94,-49.11) 1(179.94,-48.43) 1(179.94,-47.76) 1(179.94,-3.36) 1(179.94,-2.69) 1(179.94,23.54) 1(179.94,24.22) 1(180.62,-47.09) 1(180.62,-46.41) 1(180.62,-45.74) 1(180.62,-45.07) 1(180.62,-44.4) 1(180.62,-2.02) 1(180.62,-1.35) 1(180.62,24.89) 1(181.29,-43.72) 1(181.29,-43.05) 1(181.29,-42.38) 1(181.29,-41.71) 1(181.29,-41.03) 1(181.29,-0.67) 1(181.29,25.56) 1(181.29,26.23) 1(181.96,-40.36) 1(181.96,-39.69) 1(181.96,-39.02) 1(181.96,-38.34) 1(181.96,-37.67) 1(181.96,0) 1(181.96,0.67) 1(181.96,26.91) 1(181.96,27.58) 1(182.63,-37) 1(182.63,-36.32) 1(182.63,-35.65) 1(182.63,-34.98) 1(182.63,-34.31) 1(182.63,1.35) 1(182.63,2.02) 1(182.63,28.25) 1(183.31,-33.63) 1(183.31,-32.96) 1(183.31,-32.29) 1(183.31,-31.62) 1(183.31,-30.94) 1(183.31,2.69) 1(183.31,28.93) 1(183.31,29.6) 1(183.98,-30.27) 1(183.98,-29.6) 1(183.98,-28.93) 1(183.98,-28.25) 1(183.98,3.36) 1(183.98,4.04) 1(184.65,4.71) 1(184.65,5.38) 1(185.32,6.05) 1(186,6.73) 1(186,7.4) 1(186.67,-28.25) 1(186.67,8.07) 1(186.67,8.74) 1(187.34,-29.6) 1(187.34,-28.93) 1(187.34,9.42) 1(188.01,-31.62) 1(188.01,-30.94) 1(188.01,-30.27) 1(188.01,10.09) 1(188.01,10.76) 1(188.69,-32.96) 1(188.69,-32.29) 1(188.69,11.44) 1(188.69,12.11) 1(189.36,-34.98) 1(189.36,-34.31) 1(189.36,-33.63) 1(189.36,12.78) 1(190.03,-36.32) 1(190.03,-35.65) 1(190.03,13.45) 1(190.03,14.13) 1(190.71,-38.34) 1(190.71,-37.67) 1(190.71,-37) 1(190.71,14.8) 1(190.71,15.47) 1(190.71,59.2) 1(191.38,-39.69) 1(191.38,-39.02) 1(191.38,16.14) 1(192.05,-58.52) 1(192.05,-57.85) 1(192.05,-57.18) 1(192.05,-56.51) 1(192.05,-55.83) 1(192.05,-41.71) 1(192.05,-41.03) 1(192.05,-40.36) 1(192.05,16.82) 1(192.05,17.49) 1(192.72,-55.16) 1(192.72,-54.49) 1(192.72,-53.81) 1(192.72,-53.14) 1(192.72,-52.47) 1(192.72,-43.05) 1(192.72,-42.38) 1(192.72,-29.6) 1(192.72,-28.93) 1(192.72,-28.25) 1(192.72,18.16) 1(192.72,18.84) 1(193.4,-51.8) 1(193.4,-51.12) 1(193.4,-50.45) 1(193.4,-49.78) 1(193.4,-45.07) 1(193.4,-44.4) 1(193.4,-43.72) 1(193.4,-31.62) 1(193.4,-30.94) 1(193.4,-30.27) 1(193.4,19.51) 1(194.07,-49.11) 1(194.07,-48.43) 1(194.07,-47.76) 1(194.07,-47.09) 1(194.07,-46.41) 1(194.07,-45.74) 1(194.07,-32.96) 1(194.07,-32.29) 1(194.07,20.18) 1(194.07,20.85) 1(194.07,58.52) 1(194.74,-34.98) 1(194.74,-34.31) 1(194.74,-33.63) 1(194.74,21.53) 1(194.74,22.2) 1(194.74,29.6) 1(195.41,-37) 1(195.41,-36.32) 1(195.41,-35.65) 1(195.41,22.87) 1(196.09,-38.34) 1(196.09,-37.67) 1(196.09,23.54) 1(196.09,24.22) 1(196.09,28.93) 1(196.09,57.85) 1(196.76,-58.52) 1(196.76,-40.36) 1(196.76,-39.69) 1(196.76,-39.02) 1(196.76,24.89) 1(196.76,25.56) 1(196.76,26.23) 1(196.76,26.91) 1(196.76,27.58) 1(196.76,28.25) 1(197.43,-57.85) 1(197.43,-57.18) 1(197.43,-56.51) 1(197.43,-55.83) 1(197.43,-41.03) 1(198.1,-55.16) 1(198.1,-54.49) 1(198.1,-53.81) 1(198.1,-53.14) 1(198.1,-52.47) 1(198.1,-41.03) 1(198.1,57.18) 1(198.78,-51.8) 1(198.78,-51.12) 1(198.78,-50.45) 1(198.78,-49.78) 1(198.78,-49.11) 1(198.78,-40.36) 1(199.45,-48.43) 1(199.45,-47.76) 1(199.45,-47.09) 1(199.45,-39.69) 1(199.45,-39.02) 1(200.12,-46.41) 1(200.12,-45.74) 1(200.12,-38.34) 1(200.12,56.51) 1(200.8,-45.07) 1(200.8,-37.67) 1(201.47,-44.4) 1(201.47,-37) 1(201.47,55.83) 1(202.14,-43.72) 1(202.14,-36.32) 1(202.14,-35.65) 1(202.81,-43.05) 1(202.81,-42.38) 1(202.81,-34.98) 1(202.81,55.16) 1(203.49,-41.71) 1(203.49,-34.31) 1(204.16,-41.03) 1(204.16,-33.63) 1(204.16,-32.96) 1(204.16,-12.78) 1(204.16,-12.11) 1(204.16,54.49) 1(204.83,-40.36) 1(204.83,-39.69) 1(204.83,-32.29) 1(204.83,-11.44) 1(205.5,-39.02) 1(205.5,-31.62) 1(205.5,-10.76) 1(205.5,-10.09) 1(205.5,53.81) 1(206.18,-38.34) 1(206.18,-30.94) 1(206.18,-30.27) 1(206.18,-9.42) 1(206.18,-8.74) 1(206.18,53.14) 1(206.85,-37.67) 1(206.85,-29.6) 1(206.85,-8.07) 1(207.52,-37) 1(207.52,-36.32) 1(207.52,-28.93) 1(207.52,-7.4) 1(207.52,-6.73) 1(207.52,52.47) 1(208.2,-35.65) 1(208.2,-28.25) 1(208.2,-6.05) 1(208.2,-5.38) 1(208.2,51.8) 1(208.87,-34.98) 1(208.87,-4.71) 1(208.87,51.12) 1(209.54,-34.31) 1(209.54,-4.04) 1(209.54,-3.36) 1(210.21,-33.63) 1(210.21,-32.96) 1(210.21,-2.69) 1(210.21,-2.02) 1(210.21,50.45) 1(210.89,-32.29) 1(210.89,-1.35) 1(210.89,49.78) 1(211.56,-31.62) 1(211.56,-0.67) 1(211.56,0) 1(211.56,49.11) 1(212.23,-30.94) 1(212.23,0.67) 1(212.23,1.35) 1(212.23,48.43) 1(212.9,-30.27) 1(212.9,-29.6) 1(212.9,2.02) 1(212.9,47.76) 1(213.58,-28.93) 1(213.58,2.69) 1(213.58,3.36) 1(213.58,46.42) 1(213.58,47.09) 1(214.25,-28.25) 1(214.25,4.04) 1(214.25,4.71) 1(214.25,45.74) 1(214.92,5.38) 1(214.92,45.07) 1(215.59,6.05) 1(215.59,6.73) 1(215.59,43.72) 1(215.59,44.4) 1(216.27,7.4) 1(216.27,8.07) 1(216.27,43.05) 1(216.94,8.74) 1(216.94,41.71) 1(216.94,42.38) 1(217.61,9.42) 1(217.61,10.09) 1(217.61,40.36) 1(217.61,41.03) 1(218.29,10.76) 1(218.29,11.44) 1(218.29,38.34) 1(218.29,39.02) 1(218.29,39.69) 1(218.96,12.11) 1(218.96,12.78) 1(218.96,37) 1(218.96,37.67) 1(219.63,13.45) 1(219.63,14.13) 1(219.63,14.8) 1(219.63,34.31) 1(219.63,34.98) 1(219.63,35.65) 1(219.63,36.33) 1(220.3,15.47) 1(220.3,16.14) 1(220.3,16.82) 1(220.3,17.49) 1(220.3,31.62) 1(220.3,32.29) 1(220.3,32.96) 1(220.3,33.63) 1(220.98,18.16) 1(220.98,18.84) 1(220.98,19.51) 1(220.98,20.18) 1(220.98,20.85) 1(220.98,21.53) 1(220.98,22.2) 1(220.98,22.87) 1(220.98,23.54) 1(220.98,24.22) 1(220.98,24.89) 1(220.98,25.56) 1(220.98,26.23) 1(220.98,26.91) 1(220.98,27.58) 1(220.98,28.25) 1(220.98,28.93) 1(220.98,29.6) 1(220.98,30.27) 1(220.98,30.94)
Top Overlay:
  drawing of 1978 lines, arcs and shapes, not listed